# Altium integrated library Altera FLEX 6000.IntLib: 56 symbols (part 1 of 5)
Pins are listed as number, name and electrical type; pins without a type are passive.

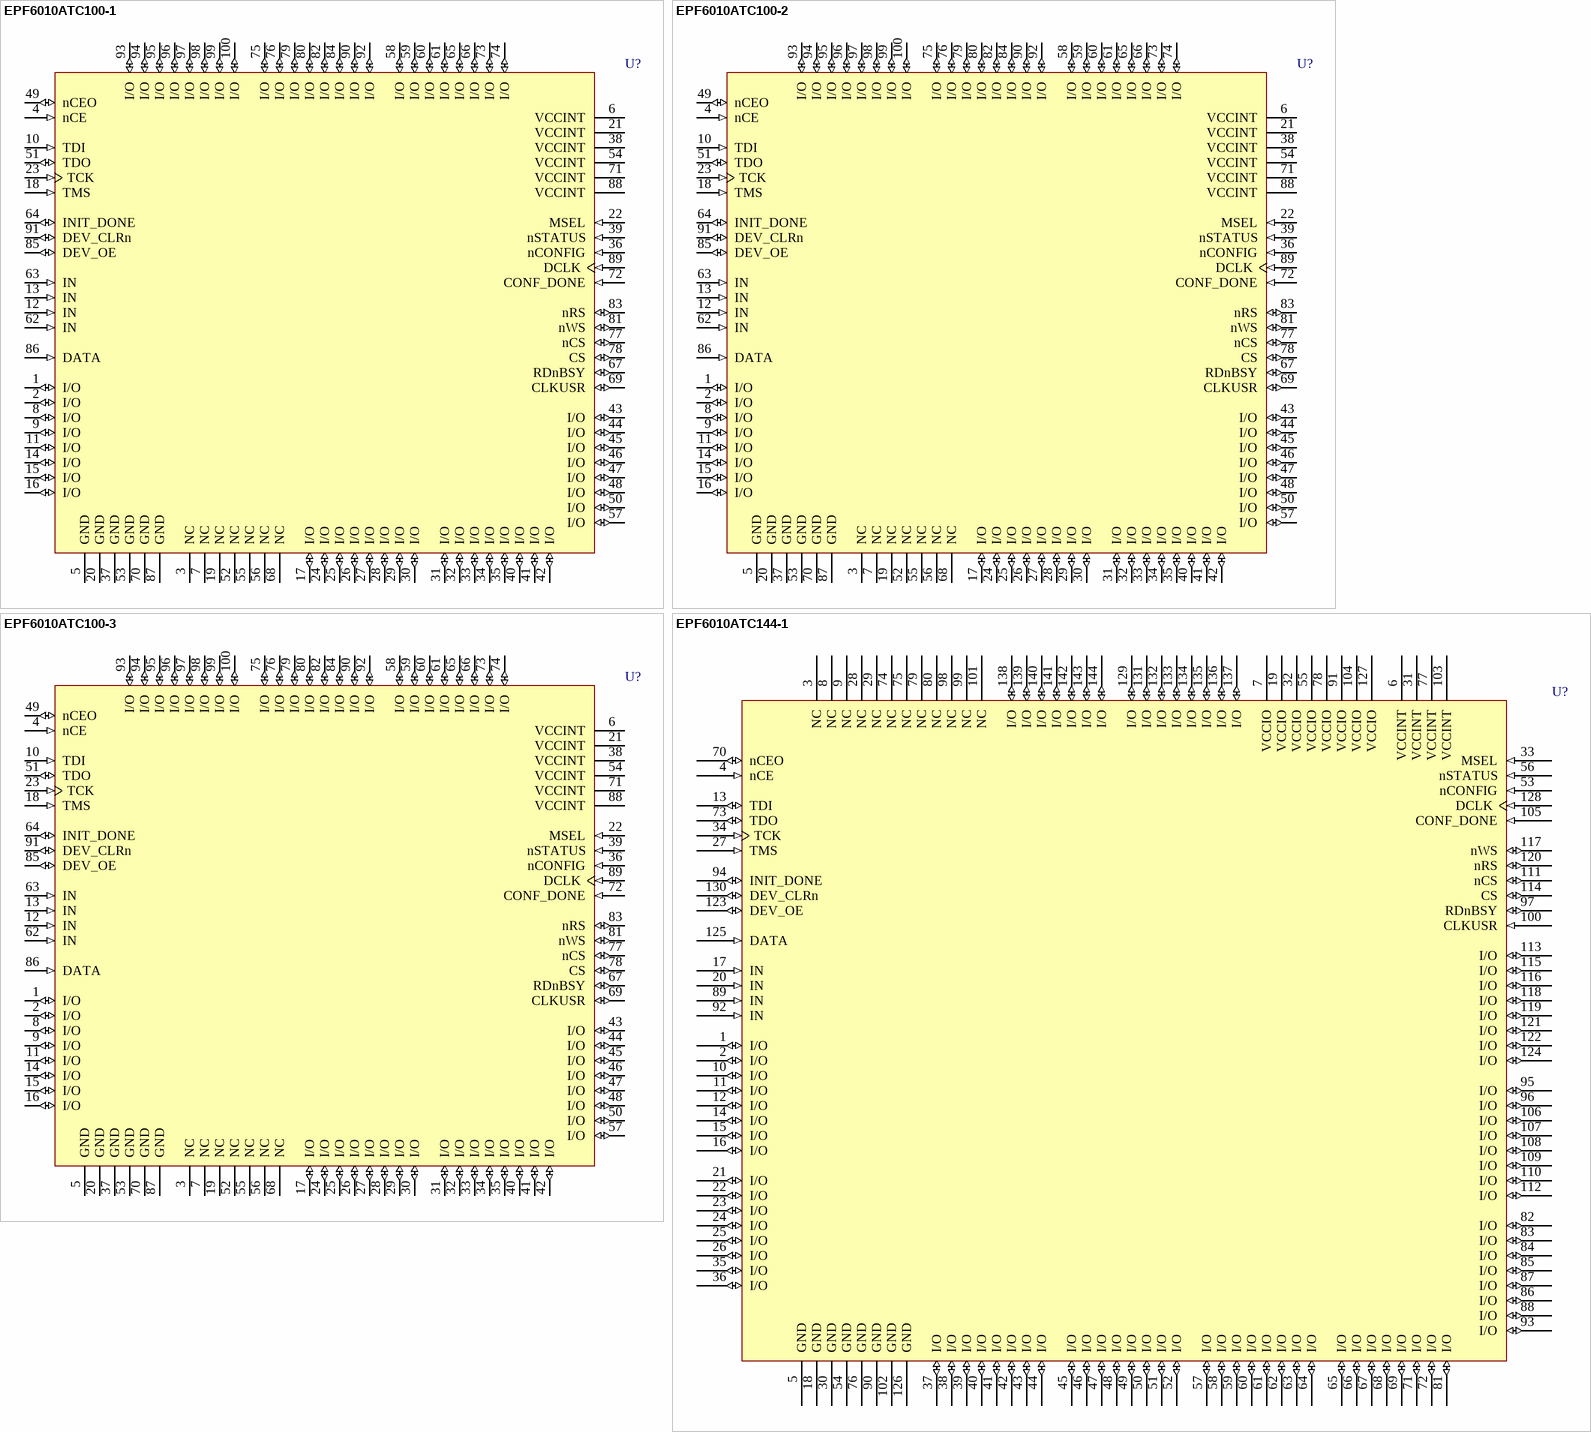
[diagram p0: symbols EPF6010ATC100-1 to EPF6010ATC144-1]

## EPF6010ATC100-1
designator U?
FLEX EPF6010A 3.3V PLD, 71 User IO Pins, 100-Pin TQFP, Speed Grade 1, Commercial Grade; Published: 24-Nov-2000; LatestRevisionDate: 13-Apr-2006; LatestRevisionNote: IPC-7351 Footprint Added.; DatasheetVersion: ver4.1, Mar-2001; PackageVersion: ver14.1, Oct-2005; PackageReference: TQFP100; Publisher: Altium Limited; PackageDescription: 100-Pin Plastic Thin Quad Flat Pack (TQFP100); Code_JEDEC: MS-026-AED; ComponentLink1Description: Manufacturer Link; ComponentLink1URL: http://www.altera.com/products/devices/flex6k/f6k-index.html; ComponentLink2Description: Datasheet; ComponentLink2URL: http://www.altera.com/literature/ds/dsf6k.pdf
footprint TQFP100_N (Thin QFP, 100-Leads, Body 14x14mm, Pitch 0.5mm, IPC Medium Density)
footprint TQFP100_L (Thin QFP, 100-Leads, Body 14x14mm, Pitch 0.5mm, IPC High Density)
footprint TQFP100_M (Thin QFP, 100-Leads, Body 14x14mm, Pitch 0.5mm, IPC Low Density)
3D model EPF6010A-TQFP100 (100-Pin Plastic Thin Quad Flat Pack (TQFP100))
pins: 1 I/O (io), 2 I/O (io), 3 NC, 4 nCE (in), 5 GND (power), 6 VCCINT (power), 7 NC, 8 I/O (io), 9 I/O (io), 10 TDI (in), 11 I/O (io), 12 IN (in), 13 IN (in), 14 I/O (io), 15 I/O (io), 16 I/O (io), 17 I/O (io), 18 TMS (in), 19 NC, 20 GND (power), 21 VCCINT (power), 22 MSEL (in), 23 TCK (in), 24 I/O (io), 25 I/O (io), 26 I/O (io), 27 I/O (io), 28 I/O (io), 29 I/O (io), 30 I/O (io), 31 I/O (io), 32 I/O (io), 33 I/O (io), 34 I/O (io), 35 I/O (io), 36 nCONFIG (in), 37 GND (power), 38 VCCINT (power), 39 nSTATUS (in), 40 I/O (io), 41 I/O (io), 42 I/O (io), 43 I/O (io), 44 I/O (io), 45 I/O (io), 46 I/O (io), 47 I/O (io), 48 I/O (io), 49 nCEO (io), 50 I/O (io), 51 TDO (io), 52 NC, 53 GND (power), 54 VCCINT (power), 55 NC, 56 NC, 57 I/O (io), 58 I/O (io), 59 I/O (io), 60 I/O (io), 61 I/O (io), 62 IN (in), 63 IN (in), 64 INIT_DONE (io), 65 I/O (io), 66 I/O (io), 67 RDnBSY (io), 68 NC, 69 CLKUSR (io), 70 GND (power), 71 VCCINT (power), 72 CONF_DONE (in), 73 I/O (io), 74 I/O (io), 75 I/O (io), 76 I/O (io), 77 nCS (io), 78 CS (io), 79 I/O (io), 80 I/O (io), 81 nWS (io), 82 I/O (io), 83 nRS (io), 84 I/O (io), 85 DEV_OE (io), 86 DATA (in), 87 GND (power), 88 VCCINT (power), 89 DCLK (in), 90 I/O (io), 91 DEV_CLRn (io), 92 I/O (io), 93 I/O (io), 94 I/O (io), 95 I/O (io), 96 I/O (io), 97 I/O (io), 98 I/O (io), 99 I/O (io), 100 I/O (io)

## EPF6010ATC100-2
designator U?
FLEX EPF6010A 3.3V PLD, 71 User IO Pins, 100-Pin TQFP, Speed Grade 2, Commercial Grade; Published: 24-Nov-2000; LatestRevisionDate: 13-Apr-2006; LatestRevisionNote: IPC-7351 Footprint Added.; DatasheetVersion: ver4.1, Mar-2001; PackageVersion: ver14.1, Oct-2005; PackageReference: TQFP100; Publisher: Altium Limited; PackageDescription: 100-Pin Plastic Thin Quad Flat Pack (TQFP100); Code_JEDEC: MS-026-AED; ComponentLink1Description: Manufacturer Link; ComponentLink1URL: http://www.altera.com/products/devices/flex6k/f6k-index.html; ComponentLink2Description: Datasheet; ComponentLink2URL: http://www.altera.com/literature/ds/dsf6k.pdf
footprint TQFP100_N (Thin QFP, 100-Leads, Body 14x14mm, Pitch 0.5mm, IPC Medium Density)
footprint TQFP100_L (Thin QFP, 100-Leads, Body 14x14mm, Pitch 0.5mm, IPC High Density)
footprint TQFP100_M (Thin QFP, 100-Leads, Body 14x14mm, Pitch 0.5mm, IPC Low Density)
3D model EPF6010A-TQFP100 (100-Pin Plastic Thin Quad Flat Pack (TQFP100))
pins: 1 I/O (io), 2 I/O (io), 3 NC, 4 nCE (in), 5 GND (power), 6 VCCINT (power), 7 NC, 8 I/O (io), 9 I/O (io), 10 TDI (in), 11 I/O (io), 12 IN (in), 13 IN (in), 14 I/O (io), 15 I/O (io), 16 I/O (io), 17 I/O (io), 18 TMS (in), 19 NC, 20 GND (power), 21 VCCINT (power), 22 MSEL (in), 23 TCK (in), 24 I/O (io), 25 I/O (io), 26 I/O (io), 27 I/O (io), 28 I/O (io), 29 I/O (io), 30 I/O (io), 31 I/O (io), 32 I/O (io), 33 I/O (io), 34 I/O (io), 35 I/O (io), 36 nCONFIG (in), 37 GND (power), 38 VCCINT (power), 39 nSTATUS (in), 40 I/O (io), 41 I/O (io), 42 I/O (io), 43 I/O (io), 44 I/O (io), 45 I/O (io), 46 I/O (io), 47 I/O (io), 48 I/O (io), 49 nCEO (io), 50 I/O (io), 51 TDO (io), 52 NC, 53 GND (power), 54 VCCINT (power), 55 NC, 56 NC, 57 I/O (io), 58 I/O (io), 59 I/O (io), 60 I/O (io), 61 I/O (io), 62 IN (in), 63 IN (in), 64 INIT_DONE (io), 65 I/O (io), 66 I/O (io), 67 RDnBSY (io), 68 NC, 69 CLKUSR (io), 70 GND (power), 71 VCCINT (power), 72 CONF_DONE (in), 73 I/O (io), 74 I/O (io), 75 I/O (io), 76 I/O (io), 77 nCS (io), 78 CS (io), 79 I/O (io), 80 I/O (io), 81 nWS (io), 82 I/O (io), 83 nRS (io), 84 I/O (io), 85 DEV_OE (io), 86 DATA (in), 87 GND (power), 88 VCCINT (power), 89 DCLK (in), 90 I/O (io), 91 DEV_CLRn (io), 92 I/O (io), 93 I/O (io), 94 I/O (io), 95 I/O (io), 96 I/O (io), 97 I/O (io), 98 I/O (io), 99 I/O (io), 100 I/O (io)

## EPF6010ATC100-3
designator U?
FLEX EPF6010A 3.3V PLD, 71 User IO Pins, 100-Pin TQFP, Speed Grade 3, Commercial Grade; Published: 24-Nov-2000; LatestRevisionDate: 13-Apr-2006; LatestRevisionNote: IPC-7351 Footprint Added.; DatasheetVersion: ver4.1, Mar-2001; PackageVersion: ver14.1, Oct-2005; PackageReference: TQFP100; Publisher: Altium Limited; PackageDescription: 100-Pin Plastic Thin Quad Flat Pack (TQFP100); Code_JEDEC: MS-026-AED; ComponentLink1Description: Manufacturer Link; ComponentLink1URL: http://www.altera.com/products/devices/flex6k/f6k-index.html; ComponentLink2Description: Datasheet; ComponentLink2URL: http://www.altera.com/literature/ds/dsf6k.pdf
footprint TQFP100_N (Thin QFP, 100-Leads, Body 14x14mm, Pitch 0.5mm, IPC Medium Density)
footprint TQFP100_L (Thin QFP, 100-Leads, Body 14x14mm, Pitch 0.5mm, IPC High Density)
footprint TQFP100_M (Thin QFP, 100-Leads, Body 14x14mm, Pitch 0.5mm, IPC Low Density)
3D model EPF6010A-TQFP100 (100-Pin Plastic Thin Quad Flat Pack (TQFP100))
pins: 1 I/O (io), 2 I/O (io), 3 NC, 4 nCE (in), 5 GND (power), 6 VCCINT (power), 7 NC, 8 I/O (io), 9 I/O (io), 10 TDI (in), 11 I/O (io), 12 IN (in), 13 IN (in), 14 I/O (io), 15 I/O (io), 16 I/O (io), 17 I/O (io), 18 TMS (in), 19 NC, 20 GND (power), 21 VCCINT (power), 22 MSEL (in), 23 TCK (in), 24 I/O (io), 25 I/O (io), 26 I/O (io), 27 I/O (io), 28 I/O (io), 29 I/O (io), 30 I/O (io), 31 I/O (io), 32 I/O (io), 33 I/O (io), 34 I/O (io), 35 I/O (io), 36 nCONFIG (in), 37 GND (power), 38 VCCINT (power), 39 nSTATUS (in), 40 I/O (io), 41 I/O (io), 42 I/O (io), 43 I/O (io), 44 I/O (io), 45 I/O (io), 46 I/O (io), 47 I/O (io), 48 I/O (io), 49 nCEO (io), 50 I/O (io), 51 TDO (io), 52 NC, 53 GND (power), 54 VCCINT (power), 55 NC, 56 NC, 57 I/O (io), 58 I/O (io), 59 I/O (io), 60 I/O (io), 61 I/O (io), 62 IN (in), 63 IN (in), 64 INIT_DONE (io), 65 I/O (io), 66 I/O (io), 67 RDnBSY (io), 68 NC, 69 CLKUSR (io), 70 GND (power), 71 VCCINT (power), 72 CONF_DONE (in), 73 I/O (io), 74 I/O (io), 75 I/O (io), 76 I/O (io), 77 nCS (io), 78 CS (io), 79 I/O (io), 80 I/O (io), 81 nWS (io), 82 I/O (io), 83 nRS (io), 84 I/O (io), 85 DEV_OE (io), 86 DATA (in), 87 GND (power), 88 VCCINT (power), 89 DCLK (in), 90 I/O (io), 91 DEV_CLRn (io), 92 I/O (io), 93 I/O (io), 94 I/O (io), 95 I/O (io), 96 I/O (io), 97 I/O (io), 98 I/O (io), 99 I/O (io), 100 I/O (io)

## EPF6010ATC144-1
designator U?
FLEX EPF6010A 3.3V PLD, 102 User IO Pins, 144-Pin TQFP, Speed Grade 1, Commercial Grade; Published: 24-Nov-2000; LatestRevisionDate: 13-Apr-2006; LatestRevisionNote: IPC-7351 Footprint Added.; DatasheetVersion: ver4.1, Mar-2001; PackageVersion: ver14.1, Oct-2005; PackageReference: TQFP144; Publisher: Altium Limited; PackageDescription: 144-Pin Plastic Thin Quad Flat Pack (TQFP144); Code_JEDEC: MS-026-BFB; ComponentLink1Description: Manufacturer Link; ComponentLink1URL: http://www.altera.com/products/devices/flex6k/f6k-index.html; ComponentLink2Description: Datasheet; ComponentLink2URL: http://www.altera.com/literature/ds/dsf6k.pdf
footprint TQFP144_N (Thin QFP, 144-Leads, Body 20x20mm, Pitch 0.5mm, IPC Medium Density)
footprint TQFP144_L (Thin QFP, 144-Leads, Body 20x20mm, Pitch 0.5mm, IPC High Density)
footprint TQFP144_M (Thin QFP, 144-Leads, Body 20x20mm, Pitch 0.5mm, IPC Low Density)
3D model EPF6010A-TQFP144 (144-Pin Plastic Thin Quad Flat Pack (TQFP144))
pins: 1 I/O (io), 2 I/O (io), 3 NC, 4 nCE (in), 5 GND (power), 6 VCCINT (power), 7 VCCIO (power), 8 NC, 9 NC, 10 I/O (io), 11 I/O (io), 12 I/O (io), 13 TDI (io), 14 I/O (io), 15 I/O (io), 16 I/O (io), 17 IN (in), 18 GND (power), 19 VCCIO (power), 20 IN (in), 21 I/O (io), 22 I/O (io), 23 I/O (io), 24 I/O (io), 25 I/O (io), 26 I/O (io), 27 TMS (in), 28 NC, 29 NC, 30 GND (power), 31 VCCINT (power), 32 VCCIO (power), 33 MSEL (in), 34 TCK (in), 35 I/O (io), 36 I/O (io), 37 I/O (io), 38 I/O (io), 39 I/O (io), 40 I/O (io), 41 I/O (io), 42 I/O (io), 43 I/O (io), 44 I/O (io), 45 I/O (io), 46 I/O (io), 47 I/O (io), 48 I/O (io), 49 I/O (io), 50 I/O (io), 51 I/O (io), 52 I/O (io), 53 nCONFIG (in), 54 GND (power), 55 VCCIO (power), 56 nSTATUS (in), 57 I/O (io), 58 I/O (io), 59 I/O (io), 60 I/O (io), 61 I/O (io), 62 I/O (io), 63 I/O (io), 64 I/O (io), 65 I/O (io), 66 I/O (io), 67 I/O (io), 68 I/O (io), 69 I/O (io), 70 nCEO (io), 71 I/O (io), 72 I/O (io), 73 TDO (io), 74 NC, 75 NC, 76 GND (power), 77 VCCINT (power), 78 VCCIO (power), 79 NC, 80 NC, 81 I/O (io), 82 I/O (io), 83 I/O (io), 84 I/O (io), 85 I/O (io), 86 I/O (io), 87 I/O (io), 88 I/O (io), 89 IN (in), 90 GND (power), 91 VCCIO (power), 92 IN (in), 93 I/O (io), 94 INIT_DONE (io), 95 I/O (io), 96 I/O (io), 97 RDnBSY (io), 98 NC, 99 NC, 100 CLKUSR (in), 101 NC, 102 GND (power), 103 VCCINT (power), 104 VCCIO (power), 105 CONF_DONE (in), 106 I/O (io), 107 I/O (io), 108 I/O (io), 109 I/O (io), 110 I/O (io), 111 nCS (io), 112 I/O (io), 113 I/O (io), 114 CS (io), 115 I/O (io), 116 I/O (io), 117 nWS (io), 118 I/O (io), 119 I/O (io), 120 nRS (io), 121 I/O (io), 122 I/O (io), 123 DEV_OE (io), 124 I/O (io), 125 DATA (in), 126 GND (power), 127 VCCIO (power), 128 DCLK (in), 129 I/O (io), 130 DEV_CLRn (io), 131 I/O (io), 132 I/O (io), 133 I/O (io), 134 I/O (io), 135 I/O (io), 136 I/O (io), 137 I/O (io), 138 I/O (io), 139 I/O (io), 140 I/O (io), 141 I/O (io), 142 I/O (io), 143 I/O (io), 144 I/O (io)

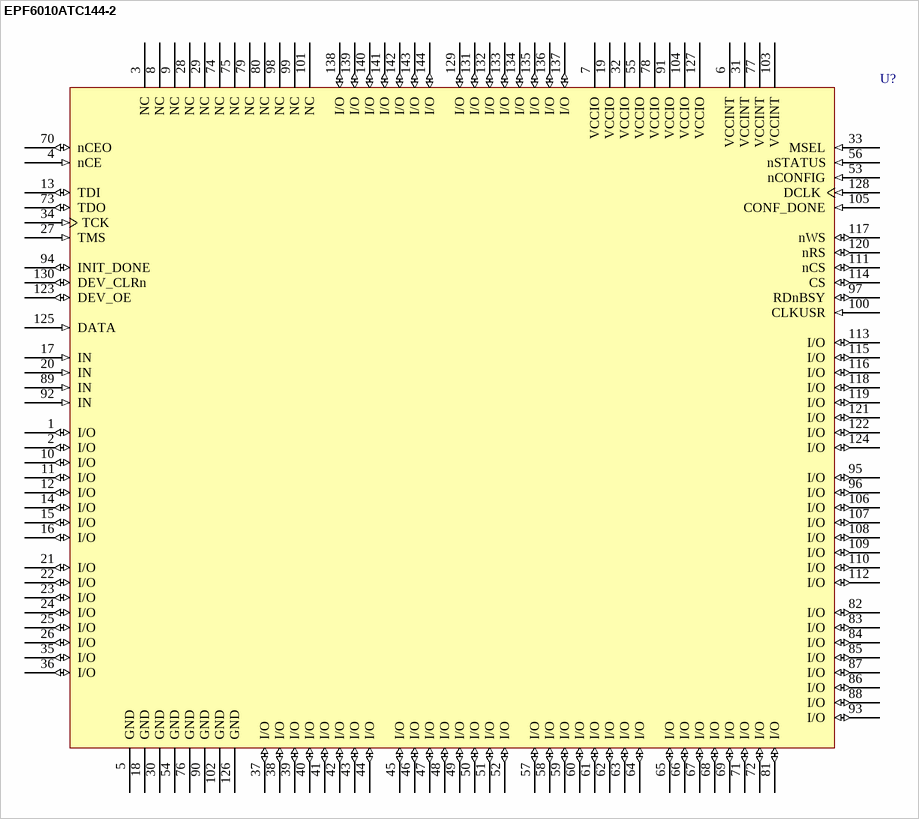
[diagram p1: symbol EPF6010ATC144-2]

## EPF6010ATC144-2
designator U?
FLEX EPF6010A 3.3V PLD, 102 User IO Pins, 144-Pin TQFP, Speed Grade 2, Commercial Grade; Published: 24-Nov-2000; LatestRevisionDate: 13-Apr-2006; LatestRevisionNote: IPC-7351 Footprint Added.; DatasheetVersion: ver4.1, Mar-2001; PackageVersion: ver14.1, Oct-2005; PackageReference: TQFP144; Publisher: Altium Limited; PackageDescription: 144-Pin Plastic Thin Quad Flat Pack (TQFP144); Code_JEDEC: MS-026-BFB; ComponentLink1Description: Manufacturer Link; ComponentLink1URL: http://www.altera.com/products/devices/flex6k/f6k-index.html; ComponentLink2Description: Datasheet; ComponentLink2URL: http://www.altera.com/literature/ds/dsf6k.pdf
footprint TQFP144_N (Thin QFP, 144-Leads, Body 20x20mm, Pitch 0.5mm, IPC Medium Density)
footprint TQFP144_L (Thin QFP, 144-Leads, Body 20x20mm, Pitch 0.5mm, IPC High Density)
footprint TQFP144_M (Thin QFP, 144-Leads, Body 20x20mm, Pitch 0.5mm, IPC Low Density)
3D model EPF6010A-TQFP144 (144-Pin Plastic Thin Quad Flat Pack (TQFP144))
pins: 1 I/O (io), 2 I/O (io), 3 NC, 4 nCE (in), 5 GND (power), 6 VCCINT (power), 7 VCCIO (power), 8 NC, 9 NC, 10 I/O (io), 11 I/O (io), 12 I/O (io), 13 TDI (io), 14 I/O (io), 15 I/O (io), 16 I/O (io), 17 IN (in), 18 GND (power), 19 VCCIO (power), 20 IN (in), 21 I/O (io), 22 I/O (io), 23 I/O (io), 24 I/O (io), 25 I/O (io), 26 I/O (io), 27 TMS (in), 28 NC, 29 NC, 30 GND (power), 31 VCCINT (power), 32 VCCIO (power), 33 MSEL (in), 34 TCK (in), 35 I/O (io), 36 I/O (io), 37 I/O (io), 38 I/O (io), 39 I/O (io), 40 I/O (io), 41 I/O (io), 42 I/O (io), 43 I/O (io), 44 I/O (io), 45 I/O (io), 46 I/O (io), 47 I/O (io), 48 I/O (io), 49 I/O (io), 50 I/O (io), 51 I/O (io), 52 I/O (io), 53 nCONFIG (in), 54 GND (power), 55 VCCIO (power), 56 nSTATUS (in), 57 I/O (io), 58 I/O (io), 59 I/O (io), 60 I/O (io), 61 I/O (io), 62 I/O (io), 63 I/O (io), 64 I/O (io), 65 I/O (io), 66 I/O (io), 67 I/O (io), 68 I/O (io), 69 I/O (io), 70 nCEO (io), 71 I/O (io), 72 I/O (io), 73 TDO (io), 74 NC, 75 NC, 76 GND (power), 77 VCCINT (power), 78 VCCIO (power), 79 NC, 80 NC, 81 I/O (io), 82 I/O (io), 83 I/O (io), 84 I/O (io), 85 I/O (io), 86 I/O (io), 87 I/O (io), 88 I/O (io), 89 IN (in), 90 GND (power), 91 VCCIO (power), 92 IN (in), 93 I/O (io), 94 INIT_DONE (io), 95 I/O (io), 96 I/O (io), 97 RDnBSY (io), 98 NC, 99 NC, 100 CLKUSR (in), 101 NC, 102 GND (power), 103 VCCINT (power), 104 VCCIO (power), 105 CONF_DONE (in), 106 I/O (io), 107 I/O (io), 108 I/O (io), 109 I/O (io), 110 I/O (io), 111 nCS (io), 112 I/O (io), 113 I/O (io), 114 CS (io), 115 I/O (io), 116 I/O (io), 117 nWS (io), 118 I/O (io), 119 I/O (io), 120 nRS (io), 121 I/O (io), 122 I/O (io), 123 DEV_OE (io), 124 I/O (io), 125 DATA (in), 126 GND (power), 127 VCCIO (power), 128 DCLK (in), 129 I/O (io), 130 DEV_CLRn (io), 131 I/O (io), 132 I/O (io), 133 I/O (io), 134 I/O (io), 135 I/O (io), 136 I/O (io), 137 I/O (io), 138 I/O (io), 139 I/O (io), 140 I/O (io), 141 I/O (io), 142 I/O (io), 143 I/O (io), 144 I/O (io)

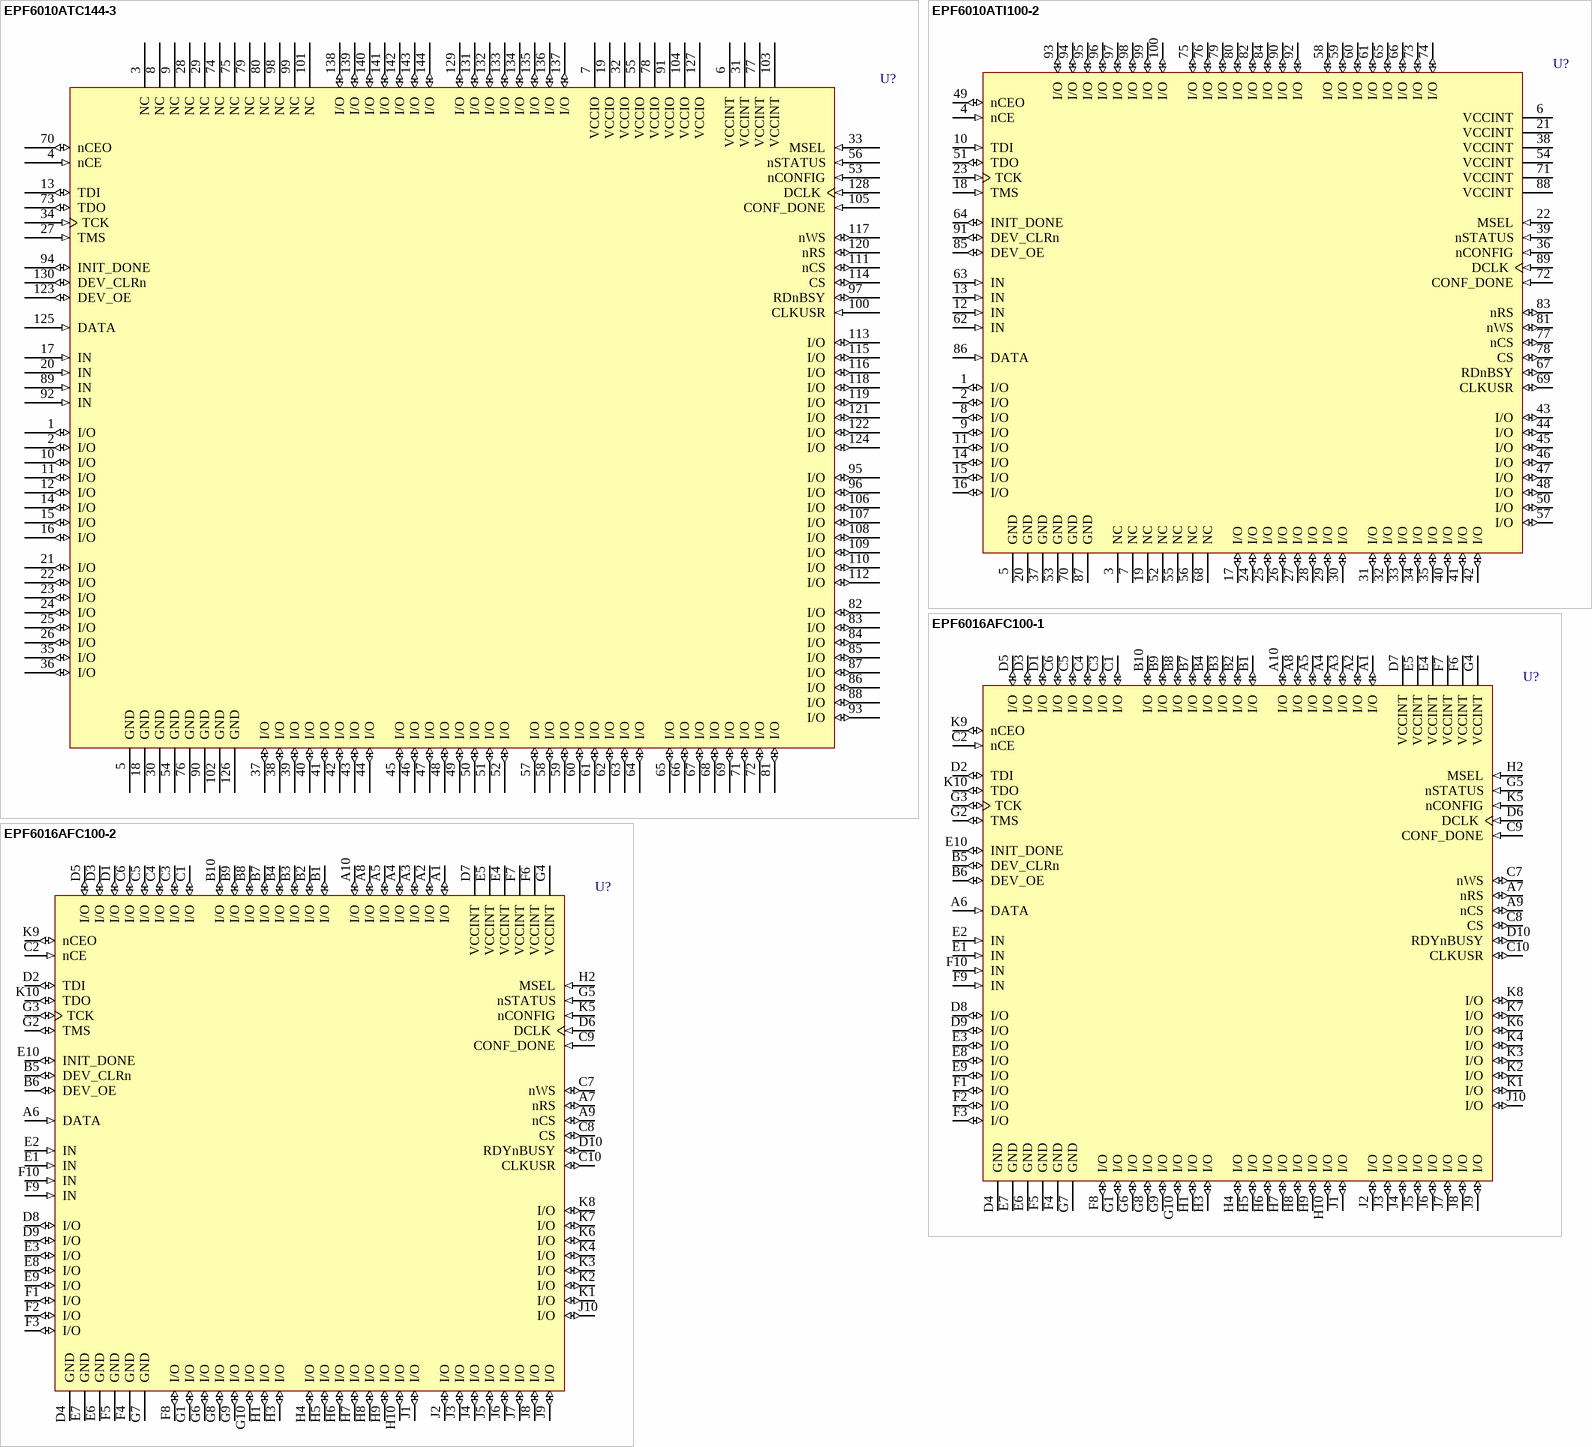
[diagram p2: symbols EPF6010ATC144-3 to EPF6016AFC100-2]

## EPF6010ATC144-3
designator U?
FLEX EPF6010A 3.3V PLD, 102 User IO Pins, 144-Pin TQFP, Speed Grade 3, Commercial Grade; Published: 24-Nov-2000; LatestRevisionDate: 13-Apr-2006; LatestRevisionNote: IPC-7351 Footprint Added.; DatasheetVersion: ver4.1, Mar-2001; PackageVersion: ver14.1, Oct-2005; PackageReference: TQFP144; Publisher: Altium Limited; PackageDescription: 144-Pin Plastic Thin Quad Flat Pack (TQFP144); Code_JEDEC: MS-026-BFB; ComponentLink1Description: Manufacturer Link; ComponentLink1URL: http://www.altera.com/products/devices/flex6k/f6k-index.html; ComponentLink2Description: Datasheet; ComponentLink2URL: http://www.altera.com/literature/ds/dsf6k.pdf
footprint TQFP144_N (Thin QFP, 144-Leads, Body 20x20mm, Pitch 0.5mm, IPC Medium Density)
footprint TQFP144_L (Thin QFP, 144-Leads, Body 20x20mm, Pitch 0.5mm, IPC High Density)
footprint TQFP144_M (Thin QFP, 144-Leads, Body 20x20mm, Pitch 0.5mm, IPC Low Density)
3D model EPF6010A-TQFP144 (144-Pin Plastic Thin Quad Flat Pack (TQFP144))
pins: 1 I/O (io), 2 I/O (io), 3 NC, 4 nCE (in), 5 GND (power), 6 VCCINT (power), 7 VCCIO (power), 8 NC, 9 NC, 10 I/O (io), 11 I/O (io), 12 I/O (io), 13 TDI (io), 14 I/O (io), 15 I/O (io), 16 I/O (io), 17 IN (in), 18 GND (power), 19 VCCIO (power), 20 IN (in), 21 I/O (io), 22 I/O (io), 23 I/O (io), 24 I/O (io), 25 I/O (io), 26 I/O (io), 27 TMS (in), 28 NC, 29 NC, 30 GND (power), 31 VCCINT (power), 32 VCCIO (power), 33 MSEL (in), 34 TCK (in), 35 I/O (io), 36 I/O (io), 37 I/O (io), 38 I/O (io), 39 I/O (io), 40 I/O (io), 41 I/O (io), 42 I/O (io), 43 I/O (io), 44 I/O (io), 45 I/O (io), 46 I/O (io), 47 I/O (io), 48 I/O (io), 49 I/O (io), 50 I/O (io), 51 I/O (io), 52 I/O (io), 53 nCONFIG (in), 54 GND (power), 55 VCCIO (power), 56 nSTATUS (in), 57 I/O (io), 58 I/O (io), 59 I/O (io), 60 I/O (io), 61 I/O (io), 62 I/O (io), 63 I/O (io), 64 I/O (io), 65 I/O (io), 66 I/O (io), 67 I/O (io), 68 I/O (io), 69 I/O (io), 70 nCEO (io), 71 I/O (io), 72 I/O (io), 73 TDO (io), 74 NC, 75 NC, 76 GND (power), 77 VCCINT (power), 78 VCCIO (power), 79 NC, 80 NC, 81 I/O (io), 82 I/O (io), 83 I/O (io), 84 I/O (io), 85 I/O (io), 86 I/O (io), 87 I/O (io), 88 I/O (io), 89 IN (in), 90 GND (power), 91 VCCIO (power), 92 IN (in), 93 I/O (io), 94 INIT_DONE (io), 95 I/O (io), 96 I/O (io), 97 RDnBSY (io), 98 NC, 99 NC, 100 CLKUSR (in), 101 NC, 102 GND (power), 103 VCCINT (power), 104 VCCIO (power), 105 CONF_DONE (in), 106 I/O (io), 107 I/O (io), 108 I/O (io), 109 I/O (io), 110 I/O (io), 111 nCS (io), 112 I/O (io), 113 I/O (io), 114 CS (io), 115 I/O (io), 116 I/O (io), 117 nWS (io), 118 I/O (io), 119 I/O (io), 120 nRS (io), 121 I/O (io), 122 I/O (io), 123 DEV_OE (io), 124 I/O (io), 125 DATA (in), 126 GND (power), 127 VCCIO (power), 128 DCLK (in), 129 I/O (io), 130 DEV_CLRn (io), 131 I/O (io), 132 I/O (io), 133 I/O (io), 134 I/O (io), 135 I/O (io), 136 I/O (io), 137 I/O (io), 138 I/O (io), 139 I/O (io), 140 I/O (io), 141 I/O (io), 142 I/O (io), 143 I/O (io), 144 I/O (io)

## EPF6010ATI100-2
designator U?
FLEX EPF6010A 3.3V PLD, 71 User IO Pins, 100-Pin TQFP, Speed Grade 2, Industrial Grade; Published: 17-Sep-2003; LatestRevisionDate: 13-Apr-2006; LatestRevisionNote: IPC-7351 Footprint Added.; DatasheetVersion: ver4.1, Mar-2001; PackageVersion: ver14.1, Oct-2005; PackageReference: TQFP100; Publisher: Altium Limited; PackageDescription: 100-Pin Plastic Thin Quad Flat Pack (TQFP100); Code_JEDEC: MS-026-AED; ComponentLink1Description: Manufacturer Link; ComponentLink1URL: http://www.altera.com/products/devices/flex6k/f6k-index.html; ComponentLink2Description: Datasheet; ComponentLink2URL: http://www.altera.com/literature/ds/dsf6k.pdf
footprint TQFP100_N (Thin QFP, 100-Leads, Body 14x14mm, Pitch 0.5mm, IPC Medium Density)
footprint TQFP100_L (Thin QFP, 100-Leads, Body 14x14mm, Pitch 0.5mm, IPC High Density)
footprint TQFP100_M (Thin QFP, 100-Leads, Body 14x14mm, Pitch 0.5mm, IPC Low Density)
3D model EPF6010A-TQFP100 (100-Pin Plastic Thin Quad Flat Pack (TQFP100))
pins: 1 I/O (io), 2 I/O (io), 3 NC, 4 nCE (in), 5 GND (power), 6 VCCINT (power), 7 NC, 8 I/O (io), 9 I/O (io), 10 TDI (in), 11 I/O (io), 12 IN (in), 13 IN (in), 14 I/O (io), 15 I/O (io), 16 I/O (io), 17 I/O (io), 18 TMS (in), 19 NC, 20 GND (power), 21 VCCINT (power), 22 MSEL (in), 23 TCK (in), 24 I/O (io), 25 I/O (io), 26 I/O (io), 27 I/O (io), 28 I/O (io), 29 I/O (io), 30 I/O (io), 31 I/O (io), 32 I/O (io), 33 I/O (io), 34 I/O (io), 35 I/O (io), 36 nCONFIG (in), 37 GND (power), 38 VCCINT (power), 39 nSTATUS (in), 40 I/O (io), 41 I/O (io), 42 I/O (io), 43 I/O (io), 44 I/O (io), 45 I/O (io), 46 I/O (io), 47 I/O (io), 48 I/O (io), 49 nCEO (io), 50 I/O (io), 51 TDO (io), 52 NC, 53 GND (power), 54 VCCINT (power), 55 NC, 56 NC, 57 I/O (io), 58 I/O (io), 59 I/O (io), 60 I/O (io), 61 I/O (io), 62 IN (in), 63 IN (in), 64 INIT_DONE (io), 65 I/O (io), 66 I/O (io), 67 RDnBSY (io), 68 NC, 69 CLKUSR (io), 70 GND (power), 71 VCCINT (power), 72 CONF_DONE (in), 73 I/O (io), 74 I/O (io), 75 I/O (io), 76 I/O (io), 77 nCS (io), 78 CS (io), 79 I/O (io), 80 I/O (io), 81 nWS (io), 82 I/O (io), 83 nRS (io), 84 I/O (io), 85 DEV_OE (io), 86 DATA (in), 87 GND (power), 88 VCCINT (power), 89 DCLK (in), 90 I/O (io), 91 DEV_CLRn (io), 92 I/O (io), 93 I/O (io), 94 I/O (io), 95 I/O (io), 96 I/O (io), 97 I/O (io), 98 I/O (io), 99 I/O (io), 100 I/O (io)

## EPF6016AFC100-1
designator U?
FLEX EPF6016A 3.3V PLD, 81 User IO Pins, 100-Pin FBGA, Speed Grade 1, Commercial Grade; Published: 17-Jul-2002; LatestRevisionDate: 13-Apr-2006; LatestRevisionNote: IPC-7351 Footprint Added.; DatasheetVersion: ver4.1, Mar-2001; PackageVersion: ver14.1, Oct-2005; PackageReference: FBGA100; Publisher: Altium Limited; PackageDescription: 100-Ball FineLine Ball Grid Array (FBGA100); Code_JEDEC: MO-192-AAC-1; Code_IPC: BGA100P10X10-100; ComponentLink1Description: Manufacturer Link; ComponentLink1URL: http://www.altera.com/products/devices/flex6k/f6k-index.html; ComponentLink2Description: Datasheet; ComponentLink2URL: http://www.altera.com/literature/ds/dsf6k.pdf
footprint FBGA100 (BGA, 100-Leads, Body 11x11mm, Pitch 1mm)
3D model EPF6016A-FBGA100 (100-Ball FineLine Ball Grid Array (FBGA100))
pins: A1 I/O (io), A2 I/O (io), A3 I/O (io), A4 I/O (io), A5 I/O (io), A6 DATA (in), A7 nRS (io), A8 I/O (io), A9 nCS (io), A10 I/O (io), B1 I/O (io), B2 I/O (io), B3 I/O (io), B4 I/O (io), B5 DEV_CLRn (io), B6 DEV_OE (io), B7 I/O (io), B8 I/O (io), B9 I/O (io), B10 I/O (io), C1 I/O (io), C2 nCE (in), C3 I/O (io), C4 I/O (io), C5 I/O (io), C6 I/O (io), C7 nWS (io), C8 CS (io), C9 CONF_DONE (in), C10 CLKUSR (io), D1 I/O (io), D2 TDI (io), D3 I/O (io), D4 GND (power), D5 I/O (io), D6 DCLK (in), D7 VCCINT (power), D8 I/O (io), D9 I/O (io), D10 RDYnBUSY (io), E1 IN (in), E2 IN (in), E3 I/O (io), E4 VCCINT (power), E5 VCCINT (power), E6 GND (power), E7 GND (power), E8 I/O (io), E9 I/O (io), E10 INIT_DONE (io), F1 I/O (io), F2 I/O (io), F3 I/O (io), F4 GND (power), F5 GND (power), F6 VCCINT (power), F7 VCCINT (power), F8 I/O (io), F9 IN (in), F10 IN (in), G1 I/O (io), G2 TMS (io), G3 TCK (io), G4 VCCINT (power), G5 nSTATUS (in), G6 I/O (io), G7 GND (power), G8 I/O (io), G9 I/O (io), G10 I/O (io), H1 I/O (io), H2 MSEL (in), H3 I/O (io), H4 I/O (io), H5 I/O (io), H6 I/O (io), H7 I/O (io), H8 I/O (io), H9 I/O (io), H10 I/O (io), J1 I/O (io), J2 I/O (io), J3 I/O (io), J4 I/O (io), J5 I/O (io), J6 I/O (io), J7 I/O (io), J8 I/O (io), J9 I/O (io), J10 I/O (io), K1 I/O (io), K2 I/O (io), K3 I/O (io), K4 I/O (io), K5 nCONFIG (in), K6 I/O (io), K7 I/O (io), K8 I/O (io), K9 nCEO (io), K10 TDO (io)

## EPF6016AFC100-2
designator U?
FLEX EPF6016A 3.3V PLD, 81 User IO Pins, 100-Pin FBGA, Speed Grade 2, Commercial Grade; Published: 17-Jul-2002; LatestRevisionDate: 13-Apr-2006; LatestRevisionNote: IPC-7351 Footprint Added.; DatasheetVersion: ver4.1, Mar-2001; PackageVersion: ver14.1, Oct-2005; PackageReference: FBGA100; Publisher: Altium Limited; PackageDescription: 100-Ball FineLine Ball Grid Array (FBGA100); Code_JEDEC: MO-192-AAC-1; Code_IPC: BGA100P10X10-100; ComponentLink1Description: Manufacturer Link; ComponentLink1URL: http://www.altera.com/products/devices/flex6k/f6k-index.html; ComponentLink2Description: Datasheet; ComponentLink2URL: http://www.altera.com/literature/ds/dsf6k.pdf
footprint FBGA100 (BGA, 100-Leads, Body 11x11mm, Pitch 1mm)
3D model EPF6016A-FBGA100 (100-Ball FineLine Ball Grid Array (FBGA100))
pins: A1 I/O (io), A2 I/O (io), A3 I/O (io), A4 I/O (io), A5 I/O (io), A6 DATA (in), A7 nRS (io), A8 I/O (io), A9 nCS (io), A10 I/O (io), B1 I/O (io), B2 I/O (io), B3 I/O (io), B4 I/O (io), B5 DEV_CLRn (io), B6 DEV_OE (io), B7 I/O (io), B8 I/O (io), B9 I/O (io), B10 I/O (io), C1 I/O (io), C2 nCE (in), C3 I/O (io), C4 I/O (io), C5 I/O (io), C6 I/O (io), C7 nWS (io), C8 CS (io), C9 CONF_DONE (in), C10 CLKUSR (io), D1 I/O (io), D2 TDI (io), D3 I/O (io), D4 GND (power), D5 I/O (io), D6 DCLK (in), D7 VCCINT (power), D8 I/O (io), D9 I/O (io), D10 RDYnBUSY (io), E1 IN (in), E2 IN (in), E3 I/O (io), E4 VCCINT (power), E5 VCCINT (power), E6 GND (power), E7 GND (power), E8 I/O (io), E9 I/O (io), E10 INIT_DONE (io), F1 I/O (io), F2 I/O (io), F3 I/O (io), F4 GND (power), F5 GND (power), F6 VCCINT (power), F7 VCCINT (power), F8 I/O (io), F9 IN (in), F10 IN (in), G1 I/O (io), G2 TMS (io), G3 TCK (io), G4 VCCINT (power), G5 nSTATUS (in), G6 I/O (io), G7 GND (power), G8 I/O (io), G9 I/O (io), G10 I/O (io), H1 I/O (io), H2 MSEL (in), H3 I/O (io), H4 I/O (io), H5 I/O (io), H6 I/O (io), H7 I/O (io), H8 I/O (io), H9 I/O (io), H10 I/O (io), J1 I/O (io), J2 I/O (io), J3 I/O (io), J4 I/O (io), J5 I/O (io), J6 I/O (io), J7 I/O (io), J8 I/O (io), J9 I/O (io), J10 I/O (io), K1 I/O (io), K2 I/O (io), K3 I/O (io), K4 I/O (io), K5 nCONFIG (in), K6 I/O (io), K7 I/O (io), K8 I/O (io), K9 nCEO (io), K10 TDO (io)

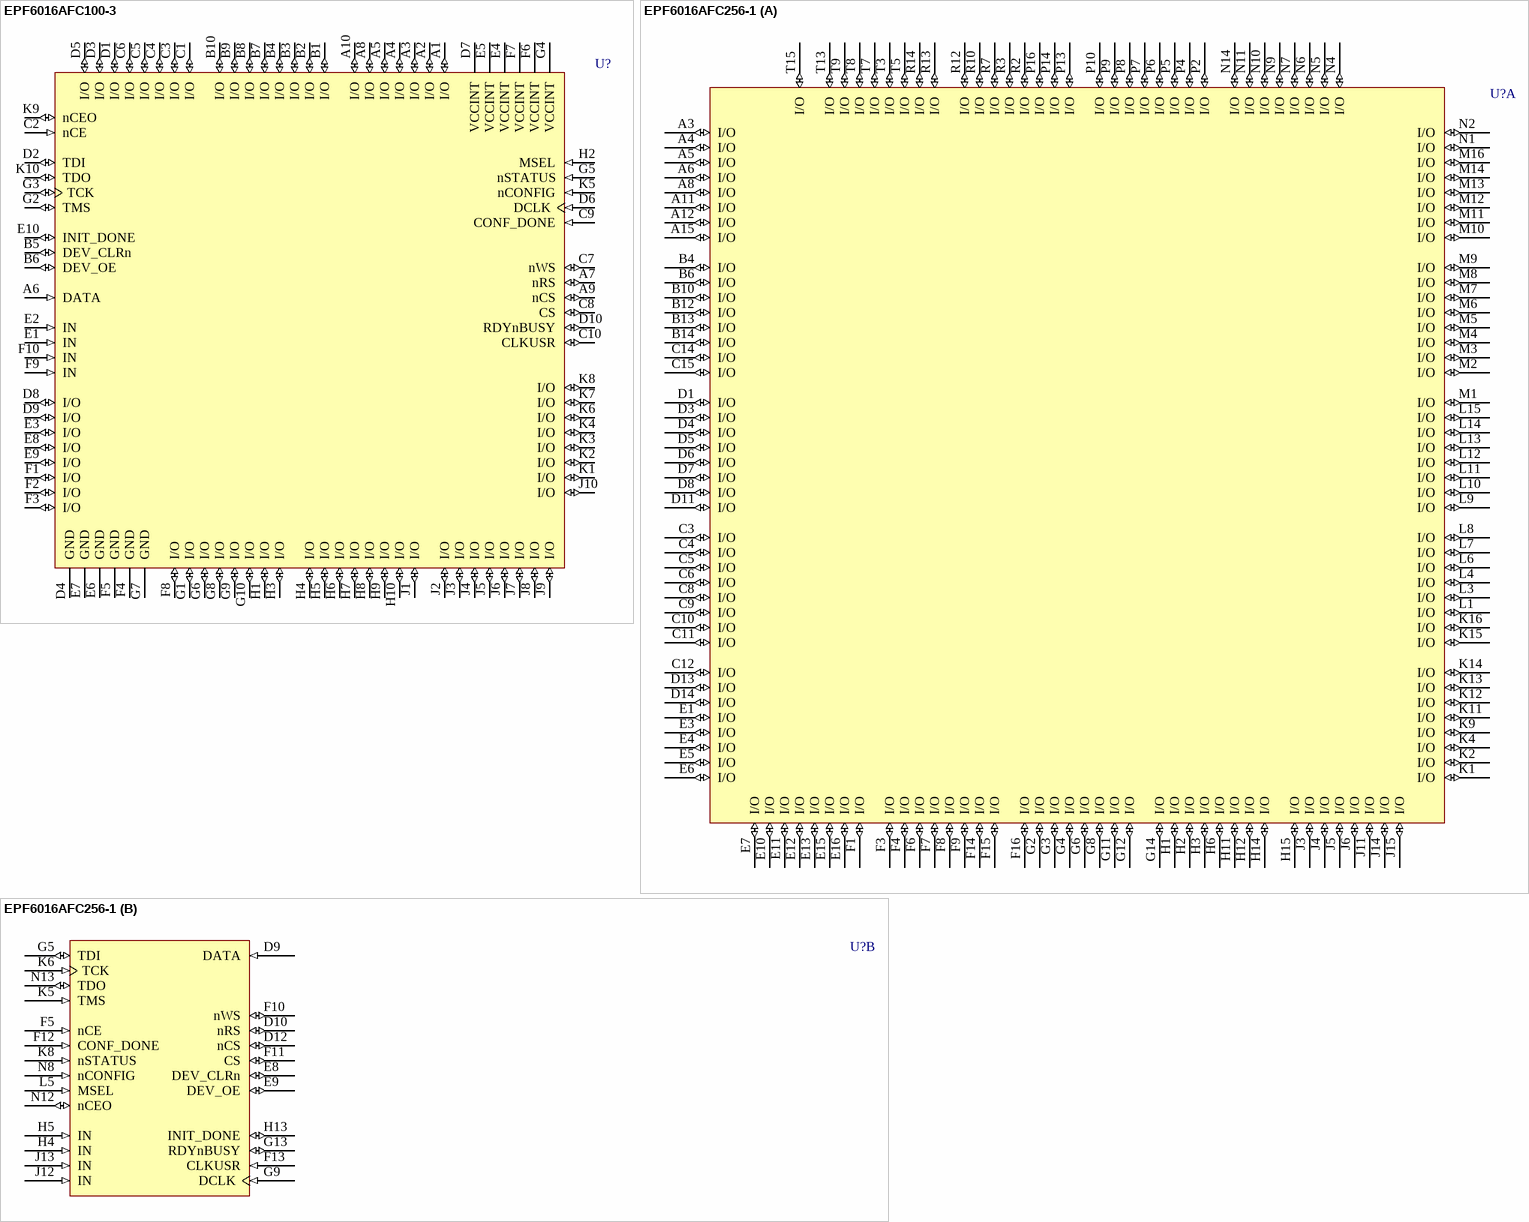
[diagram p3: symbols EPF6016AFC100-3 to EPF6016AFC256-1]

## EPF6016AFC100-3
designator U?
FLEX EPF6016A 3.3V PLD, 81 User IO Pins, 100-Pin FBGA, Speed Grade 3, Commercial Grade; Published: 17-Jul-2002; LatestRevisionDate: 13-Apr-2006; LatestRevisionNote: IPC-7351 Footprint Added.; DatasheetVersion: ver4.1, Mar-2001; PackageVersion: ver14.1, Oct-2005; PackageReference: FBGA100; Publisher: Altium Limited; PackageDescription: 100-Ball FineLine Ball Grid Array (FBGA100); Code_JEDEC: MO-192-AAC-1; Code_IPC: BGA100P10X10-100; ComponentLink1Description: Manufacturer Link; ComponentLink1URL: http://www.altera.com/products/devices/flex6k/f6k-index.html; ComponentLink2Description: Datasheet; ComponentLink2URL: http://www.altera.com/literature/ds/dsf6k.pdf
footprint FBGA100 (BGA, 100-Leads, Body 11x11mm, Pitch 1mm)
3D model EPF6016A-FBGA100 (100-Ball FineLine Ball Grid Array (FBGA100))
pins: A1 I/O (io), A2 I/O (io), A3 I/O (io), A4 I/O (io), A5 I/O (io), A6 DATA (in), A7 nRS (io), A8 I/O (io), A9 nCS (io), A10 I/O (io), B1 I/O (io), B2 I/O (io), B3 I/O (io), B4 I/O (io), B5 DEV_CLRn (io), B6 DEV_OE (io), B7 I/O (io), B8 I/O (io), B9 I/O (io), B10 I/O (io), C1 I/O (io), C2 nCE (in), C3 I/O (io), C4 I/O (io), C5 I/O (io), C6 I/O (io), C7 nWS (io), C8 CS (io), C9 CONF_DONE (in), C10 CLKUSR (io), D1 I/O (io), D2 TDI (io), D3 I/O (io), D4 GND (power), D5 I/O (io), D6 DCLK (in), D7 VCCINT (power), D8 I/O (io), D9 I/O (io), D10 RDYnBUSY (io), E1 IN (in), E2 IN (in), E3 I/O (io), E4 VCCINT (power), E5 VCCINT (power), E6 GND (power), E7 GND (power), E8 I/O (io), E9 I/O (io), E10 INIT_DONE (io), F1 I/O (io), F2 I/O (io), F3 I/O (io), F4 GND (power), F5 GND (power), F6 VCCINT (power), F7 VCCINT (power), F8 I/O (io), F9 IN (in), F10 IN (in), G1 I/O (io), G2 TMS (io), G3 TCK (io), G4 VCCINT (power), G5 nSTATUS (in), G6 I/O (io), G7 GND (power), G8 I/O (io), G9 I/O (io), G10 I/O (io), H1 I/O (io), H2 MSEL (in), H3 I/O (io), H4 I/O (io), H5 I/O (io), H6 I/O (io), H7 I/O (io), H8 I/O (io), H9 I/O (io), H10 I/O (io), J1 I/O (io), J2 I/O (io), J3 I/O (io), J4 I/O (io), J5 I/O (io), J6 I/O (io), J7 I/O (io), J8 I/O (io), J9 I/O (io), J10 I/O (io), K1 I/O (io), K2 I/O (io), K3 I/O (io), K4 I/O (io), K5 nCONFIG (in), K6 I/O (io), K7 I/O (io), K8 I/O (io), K9 nCEO (io), K10 TDO (io)

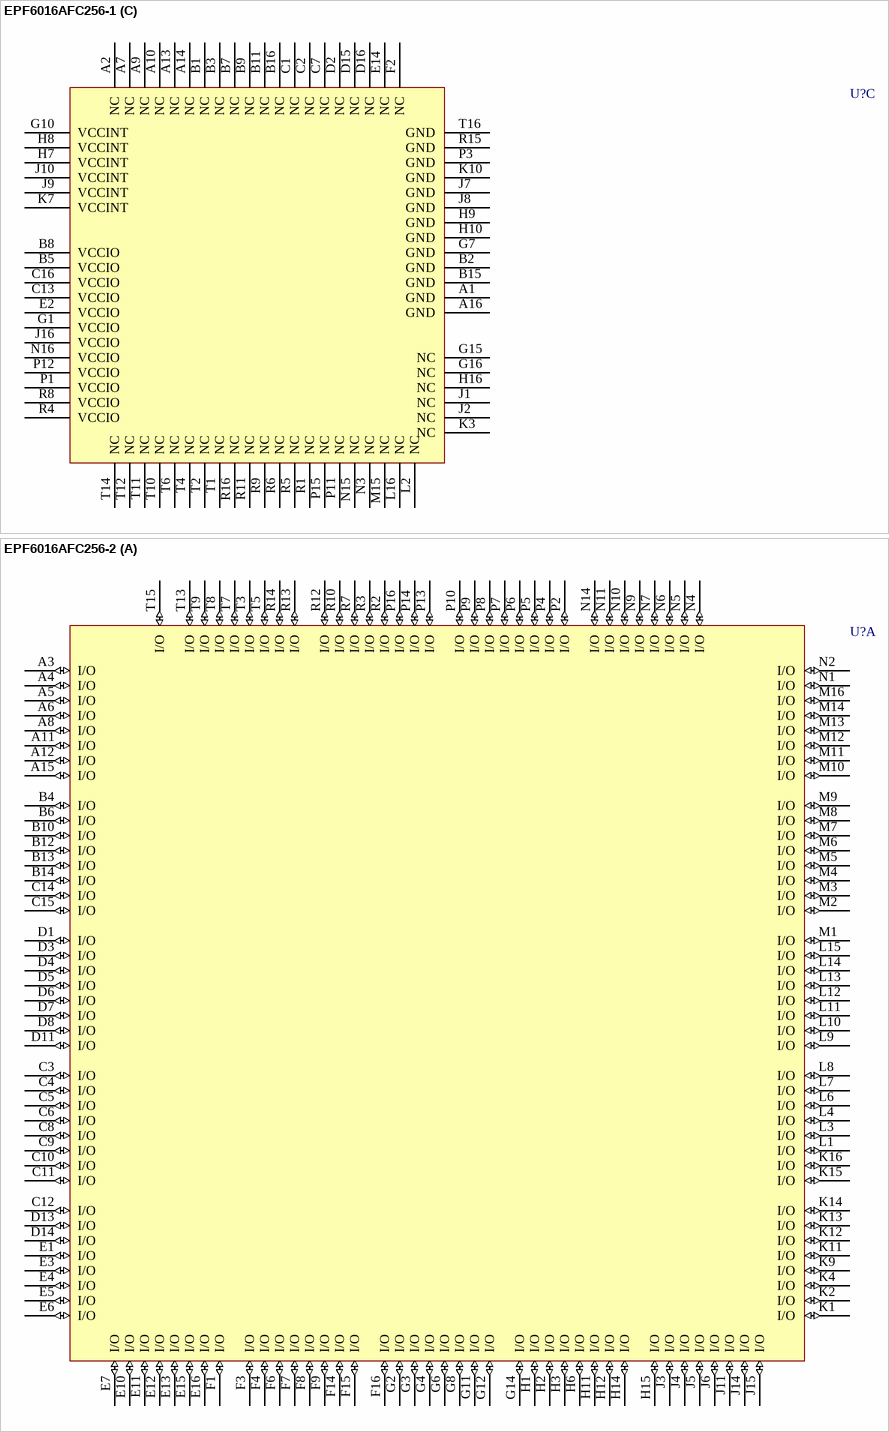
[diagram p4: symbols EPF6016AFC256-1 to EPF6016AFC256-2]

## EPF6016AFC256-1
designator U?
FLEX EPF6016A 3.3V PLD, 171 User IO Pins, 256-Pin BGA, Speed Grade 1, Commercial Grade; Published: 17-Jul-2002; LatestRevisionDate: 13-Apr-2006; LatestRevisionNote: IPC-7351 Footprint Added.; DatasheetVersion: ver4.1, Mar-2001; PackageVersion: ver14.1, Oct-2005; PackageReference: FBGA256; Publisher: Altium Limited; PackageDescription: 256-Ball FineLine Ball Grid Array (FBGA256) - Option 1; Code_JEDEC: MS-034-AAF-1; Code_IPC: BGA100P16X16-256; ComponentLink1Description: Manufacturer Link; ComponentLink1URL: http://www.altera.com/products/devices/flex6k/f6k-index.html; ComponentLink2Description: Datasheet; ComponentLink2URL: http://www.altera.com/literature/ds/dsf6k.pdf
footprint FBGA256 (BGA, 256-Leads, Body 17x17mm, Pitch 1mm)
3D model EPF6016A-FBGA256 (256-Ball FineLine Ball Grid Array (FBGA256) - Option 1)
part A pins: A3 I/O (io), A4 I/O (io), A5 I/O (io), A6 I/O (io), A8 I/O (io), A11 I/O (io), A12 I/O (io), A15 I/O (io), B4 I/O (io), B6 I/O (io), B10 I/O (io), B12 I/O (io), B13 I/O (io), B14 I/O (io), C3 I/O (io), C4 I/O (io), C5 I/O (io), C6 I/O (io), C8 I/O (io), C9 I/O (io), C10 I/O (io), C11 I/O (io), C12 I/O (io), C14 I/O (io), C15 I/O (io), D1 I/O (io), D3 I/O (io), D4 I/O (io), D5 I/O (io), D6 I/O (io), D7 I/O (io), D8 I/O (io), D11 I/O (io), D13 I/O (io), D14 I/O (io), E1 I/O (io), E3 I/O (io), E4 I/O (io), E5 I/O (io), E6 I/O (io), E7 I/O (io), E10 I/O (io), E11 I/O (io), E12 I/O (io), E13 I/O (io), E15 I/O (io), E16 I/O (io), F1 I/O (io), F3 I/O (io), F4 I/O (io), F6 I/O (io), F7 I/O (io), F8 I/O (io), F9 I/O (io), F14 I/O (io), F15 I/O (io), F16 I/O (io), G2 I/O (io), G3 I/O (io), G4 I/O (io), G6 I/O (io), G8 I/O (io), G11 I/O (io), G12 I/O (io), G14 I/O (io), H1 I/O (io), H2 I/O (io), H3 I/O (io), H6 I/O (io), H11 I/O (io), H12 I/O (io), H14 I/O (io), H15 I/O (io), J3 I/O (io), J4 I/O (io), J5 I/O (io), J6 I/O (io), J11 I/O (io), J14 I/O (io), J15 I/O (io), K1 I/O (io), K2 I/O (io), K4 I/O (io), K9 I/O (io), K11 I/O (io), K12 I/O (io), K13 I/O (io), K14 I/O (io), K15 I/O (io), K16 I/O (io), L1 I/O (io), L3 I/O (io), L4 I/O (io), L6 I/O (io), L7 I/O (io), L8 I/O (io), L9 I/O (io), L10 I/O (io), L11 I/O (io), L12 I/O (io), L13 I/O (io), L14 I/O (io), L15 I/O (io), M1 I/O (io), M2 I/O (io), M3 I/O (io), M4 I/O (io), M5 I/O (io), M6 I/O (io), M7 I/O (io), M8 I/O (io), M9 I/O (io), M10 I/O (io), M11 I/O (io), M12 I/O (io), M13 I/O (io), M14 I/O (io), M16 I/O (io), N1 I/O (io), N2 I/O (io), N4 I/O (io), N5 I/O (io), N6 I/O (io), N7 I/O (io), N9 I/O (io), N10 I/O (io), N11 I/O (io), N14 I/O (io), P2 I/O (io), P4 I/O (io), P5 I/O (io), P6 I/O (io), P7 I/O (io), P8 I/O (io), P9 I/O (io), P10 I/O (io), P13 I/O (io), P14 I/O (io), P16 I/O (io), R2 I/O (io), R3 I/O (io), R7 I/O (io), R10 I/O (io), R12 I/O (io), R13 I/O (io), R14 I/O (io), T3 I/O (io), T5 I/O (io), T7 I/O (io), T8 I/O (io), T9 I/O (io), T13 I/O (io), T15 I/O (io)
part B pins: D9 DATA (in), D10 nRS (io), D12 nCS (io), E8 DEV_CLRn (io), E9 DEV_OE (io), F5 nCE (in), F10 nWS (io), F11 CS (io), F12 CONF_DONE (in), F13 CLKUSR (in), G5 TDI (io), G9 DCLK (in), G13 RDYnBUSY (io), H4 IN (in), H5 IN (in), H13 INIT_DONE (io), J12 IN (in), J13 IN (in), K5 TMS (in), K6 TCK (in), K8 nSTATUS (in), L5 MSEL (in), N8 nCONFIG (in), N12 nCEO (io), N13 TDO (io)
part C pins: A1 GND (power), A2 NC, A7 NC, A9 NC, A10 NC, A13 NC, A14 NC, A16 GND (power), B1 NC, B2 GND (power), B3 NC, B5 VCCIO (power), B7 NC, B8 VCCIO (power), B9 NC, B11 NC, B15 GND (power), B16 NC, C1 NC, C2 NC, C7 NC, C13 VCCIO (power), C16 VCCIO (power), D2 NC, D15 NC, D16 NC, E2 VCCIO (power), E14 NC, F2 NC, G1 VCCIO (power), G7 GND (power), G10 VCCINT (power), G15 NC, G16 NC, H7 VCCINT (power), H8 VCCINT (power), H9 GND (power), H10 GND (power), H16 NC, J1 NC, J2 NC, J7 GND (power), J8 GND (power), J9 VCCINT (power), J10 VCCINT (power), J16 VCCIO (power), K3 NC, K7 VCCINT (power), K10 GND (power), L2 NC, L16 NC, M15 NC, N3 NC, N15 NC, N16 VCCIO (power), P1 VCCIO (power), P3 GND (power), P11 NC, P12 VCCIO (power), P15 NC, R1 NC, R4 VCCIO (power), R5 NC, R6 NC, R8 VCCIO (power), R9 NC, R11 NC, R15 GND (power), R16 NC, T1 NC, T2 NC, T4 NC, T6 NC, T10 NC, T11 NC, T12 NC, T14 NC, T16 GND (power)

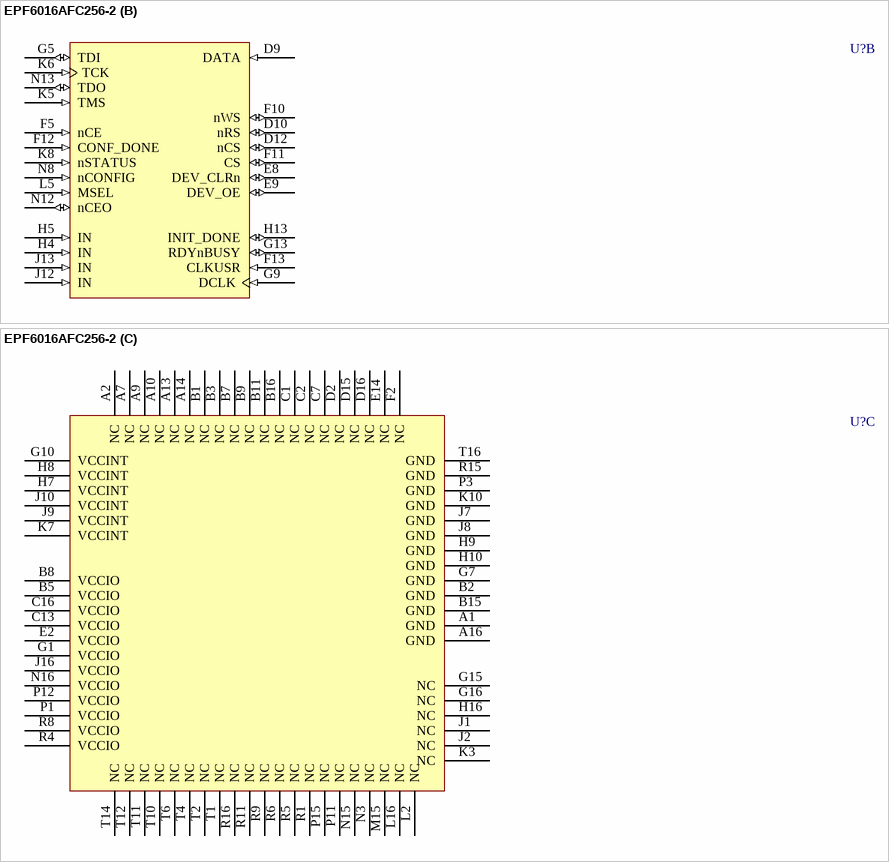
[diagram p5: symbol EPF6016AFC256-2]

## EPF6016AFC256-2
designator U?
FLEX EPF6016A 3.3V PLD, 171 User IO Pins, 256-Pin BGA, Speed Grade 2, Commercial Grade; Published: 17-Jul-2002; LatestRevisionDate: 13-Apr-2006; LatestRevisionNote: IPC-7351 Footprint Added.; DatasheetVersion: ver4.1, Mar-2001; PackageVersion: ver14.1, Oct-2005; PackageReference: FBGA256; Publisher: Altium Limited; PackageDescription: 256-Ball FineLine Ball Grid Array (FBGA256) - Option 1; Code_JEDEC: MS-034-AAF-1; Code_IPC: BGA100P16X16-256; ComponentLink1Description: Manufacturer Link; ComponentLink1URL: http://www.altera.com/products/devices/flex6k/f6k-index.html; ComponentLink2Description: Datasheet; ComponentLink2URL: http://www.altera.com/literature/ds/dsf6k.pdf
footprint FBGA256 (BGA, 256-Leads, Body 17x17mm, Pitch 1mm)
3D model EPF6016A-FBGA256 (256-Ball FineLine Ball Grid Array (FBGA256) - Option 1)
part A pins: A3 I/O (io), A4 I/O (io), A5 I/O (io), A6 I/O (io), A8 I/O (io), A11 I/O (io), A12 I/O (io), A15 I/O (io), B4 I/O (io), B6 I/O (io), B10 I/O (io), B12 I/O (io), B13 I/O (io), B14 I/O (io), C3 I/O (io), C4 I/O (io), C5 I/O (io), C6 I/O (io), C8 I/O (io), C9 I/O (io), C10 I/O (io), C11 I/O (io), C12 I/O (io), C14 I/O (io), C15 I/O (io), D1 I/O (io), D3 I/O (io), D4 I/O (io), D5 I/O (io), D6 I/O (io), D7 I/O (io), D8 I/O (io), D11 I/O (io), D13 I/O (io), D14 I/O (io), E1 I/O (io), E3 I/O (io), E4 I/O (io), E5 I/O (io), E6 I/O (io), E7 I/O (io), E10 I/O (io), E11 I/O (io), E12 I/O (io), E13 I/O (io), E15 I/O (io), E16 I/O (io), F1 I/O (io), F3 I/O (io), F4 I/O (io), F6 I/O (io), F7 I/O (io), F8 I/O (io), F9 I/O (io), F14 I/O (io), F15 I/O (io), F16 I/O (io), G2 I/O (io), G3 I/O (io), G4 I/O (io), G6 I/O (io), G8 I/O (io), G11 I/O (io), G12 I/O (io), G14 I/O (io), H1 I/O (io), H2 I/O (io), H3 I/O (io), H6 I/O (io), H11 I/O (io), H12 I/O (io), H14 I/O (io), H15 I/O (io), J3 I/O (io), J4 I/O (io), J5 I/O (io), J6 I/O (io), J11 I/O (io), J14 I/O (io), J15 I/O (io), K1 I/O (io), K2 I/O (io), K4 I/O (io), K9 I/O (io), K11 I/O (io), K12 I/O (io), K13 I/O (io), K14 I/O (io), K15 I/O (io), K16 I/O (io), L1 I/O (io), L3 I/O (io), L4 I/O (io), L6 I/O (io), L7 I/O (io), L8 I/O (io), L9 I/O (io), L10 I/O (io), L11 I/O (io), L12 I/O (io), L13 I/O (io), L14 I/O (io), L15 I/O (io), M1 I/O (io), M2 I/O (io), M3 I/O (io), M4 I/O (io), M5 I/O (io), M6 I/O (io), M7 I/O (io), M8 I/O (io), M9 I/O (io), M10 I/O (io), M11 I/O (io), M12 I/O (io), M13 I/O (io), M14 I/O (io), M16 I/O (io), N1 I/O (io), N2 I/O (io), N4 I/O (io), N5 I/O (io), N6 I/O (io), N7 I/O (io), N9 I/O (io), N10 I/O (io), N11 I/O (io), N14 I/O (io), P2 I/O (io), P4 I/O (io), P5 I/O (io), P6 I/O (io), P7 I/O (io), P8 I/O (io), P9 I/O (io), P10 I/O (io), P13 I/O (io), P14 I/O (io), P16 I/O (io), R2 I/O (io), R3 I/O (io), R7 I/O (io), R10 I/O (io), R12 I/O (io), R13 I/O (io), R14 I/O (io), T3 I/O (io), T5 I/O (io), T7 I/O (io), T8 I/O (io), T9 I/O (io), T13 I/O (io), T15 I/O (io)
part B pins: D9 DATA (in), D10 nRS (io), D12 nCS (io), E8 DEV_CLRn (io), E9 DEV_OE (io), F5 nCE (in), F10 nWS (io), F11 CS (io), F12 CONF_DONE (in), F13 CLKUSR (in), G5 TDI (io), G9 DCLK (in), G13 RDYnBUSY (io), H4 IN (in), H5 IN (in), H13 INIT_DONE (io), J12 IN (in), J13 IN (in), K5 TMS (in), K6 TCK (in), K8 nSTATUS (in), L5 MSEL (in), N8 nCONFIG (in), N12 nCEO (io), N13 TDO (io)
part C pins: A1 GND (power), A2 NC, A7 NC, A9 NC, A10 NC, A13 NC, A14 NC, A16 GND (power), B1 NC, B2 GND (power), B3 NC, B5 VCCIO (power), B7 NC, B8 VCCIO (power), B9 NC, B11 NC, B15 GND (power), B16 NC, C1 NC, C2 NC, C7 NC, C13 VCCIO (power), C16 VCCIO (power), D2 NC, D15 NC, D16 NC, E2 VCCIO (power), E14 NC, F2 NC, G1 VCCIO (power), G7 GND (power), G10 VCCINT (power), G15 NC, G16 NC, H7 VCCINT (power), H8 VCCINT (power), H9 GND (power), H10 GND (power), H16 NC, J1 NC, J2 NC, J7 GND (power), J8 GND (power), J9 VCCINT (power), J10 VCCINT (power), J16 VCCIO (power), K3 NC, K7 VCCINT (power), K10 GND (power), L2 NC, L16 NC, M15 NC, N3 NC, N15 NC, N16 VCCIO (power), P1 VCCIO (power), P3 GND (power), P11 NC, P12 VCCIO (power), P15 NC, R1 NC, R4 VCCIO (power), R5 NC, R6 NC, R8 VCCIO (power), R9 NC, R11 NC, R15 GND (power), R16 NC, T1 NC, T2 NC, T4 NC, T6 NC, T10 NC, T11 NC, T12 NC, T14 NC, T16 GND (power)

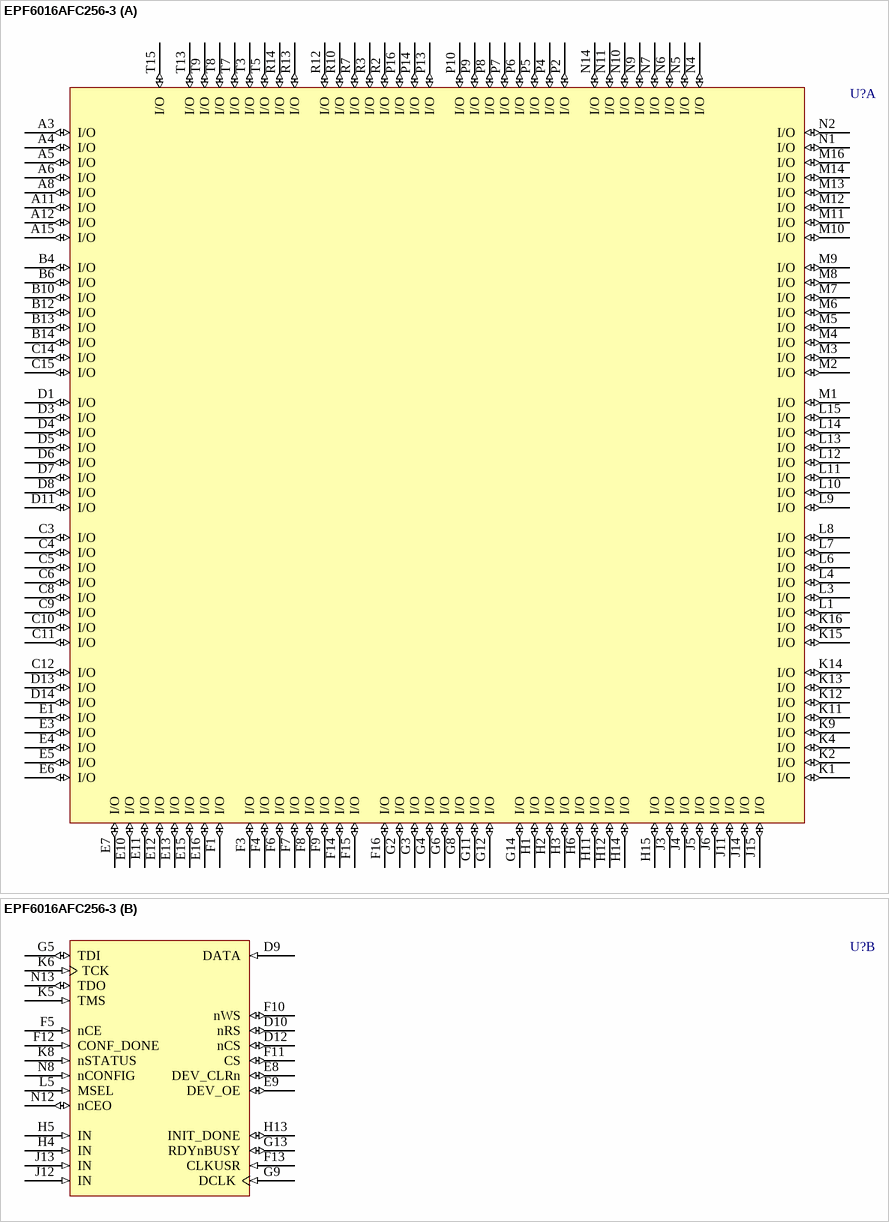
[diagram p6: symbol EPF6016AFC256-3]

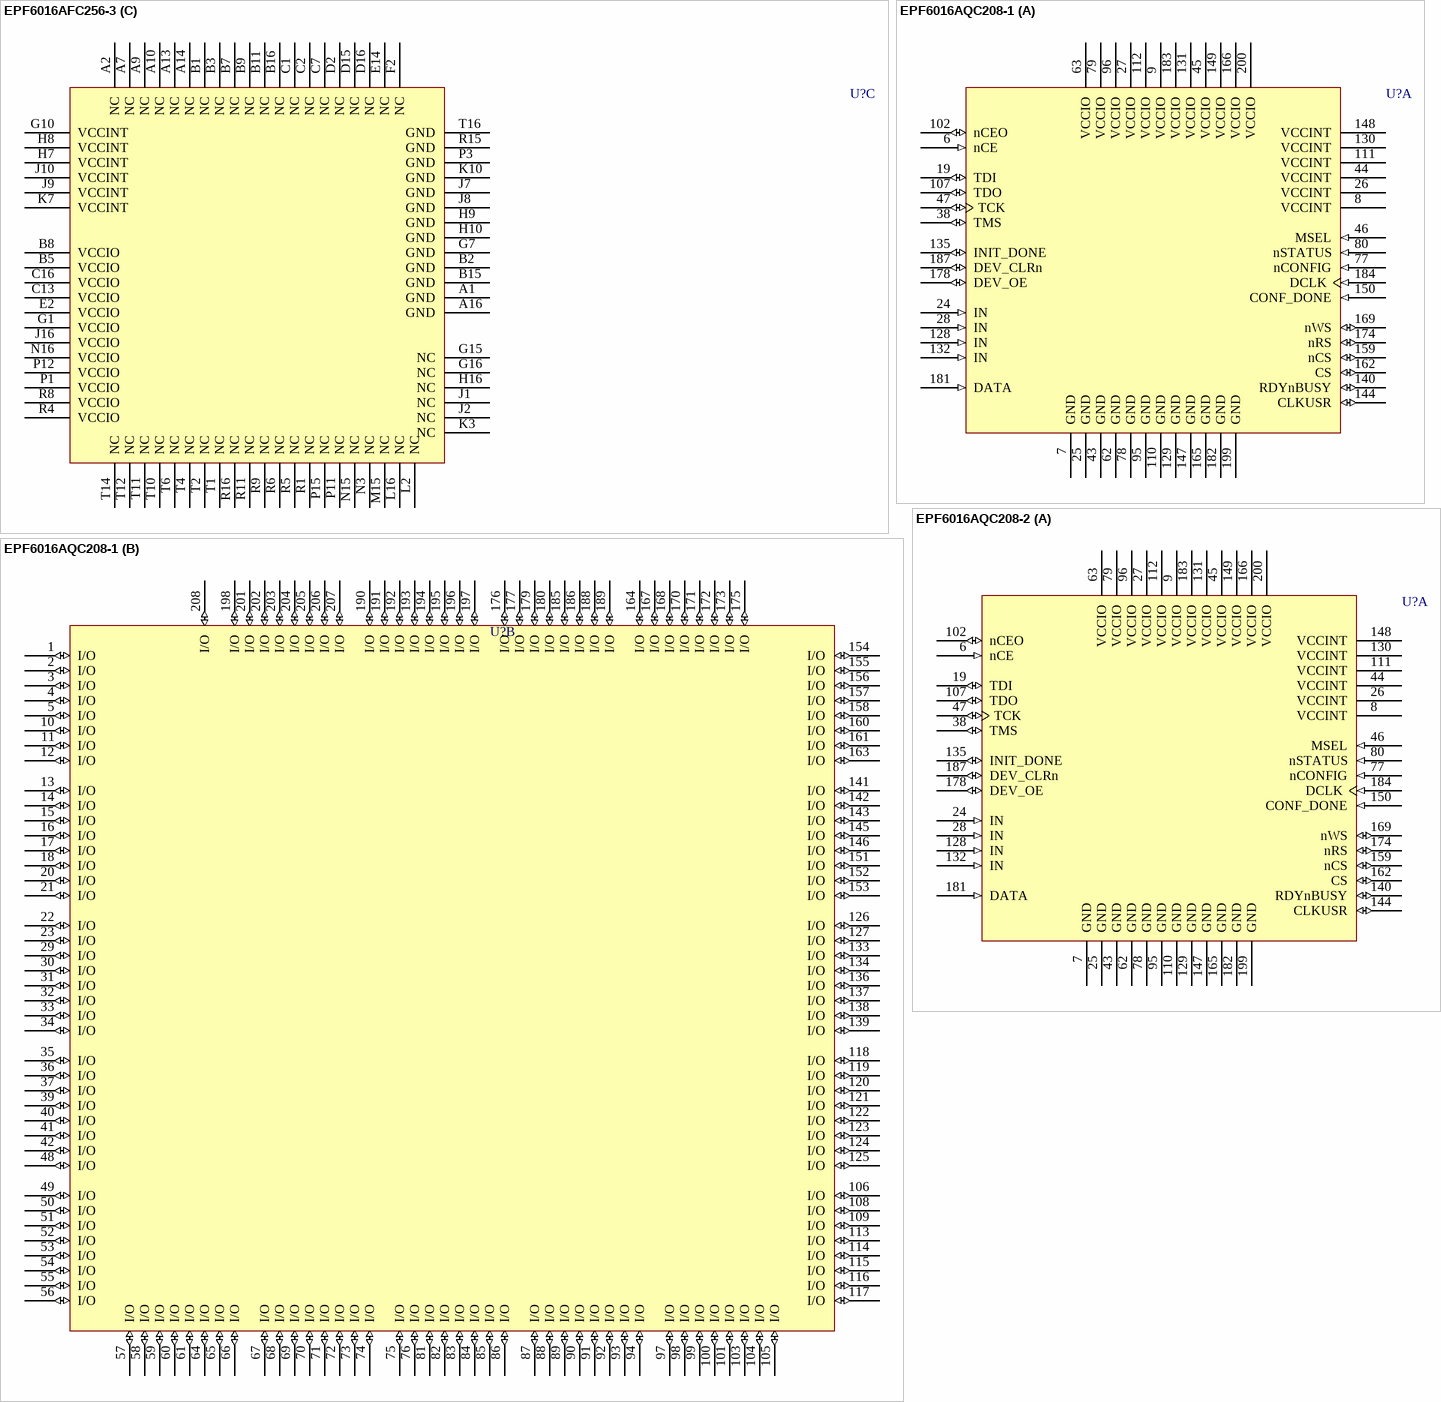
[diagram p7: symbols EPF6016AFC256-3 to EPF6016AQC208-2]

## EPF6016AFC256-3
designator U?
FLEX EPF6016A 3.3V PLD, 171 User IO Pins, 256-Pin BGA, Speed Grade 3, Commercial Grade; Published: 17-Jul-2002; LatestRevisionDate: 13-Apr-2006; LatestRevisionNote: IPC-7351 Footprint Added.; DatasheetVersion: ver4.1, Mar-2001; PackageVersion: ver14.1, Oct-2005; PackageReference: FBGA256; Publisher: Altium Limited; PackageDescription: 256-Ball FineLine Ball Grid Array (FBGA256) - Option 1; Code_JEDEC: MS-034-AAF-1; Code_IPC: BGA100P16X16-256; ComponentLink1Description: Manufacturer Link; ComponentLink1URL: http://www.altera.com/products/devices/flex6k/f6k-index.html; ComponentLink2Description: Datasheet; ComponentLink2URL: http://www.altera.com/literature/ds/dsf6k.pdf
footprint FBGA256 (BGA, 256-Leads, Body 17x17mm, Pitch 1mm)
3D model EPF6016A-FBGA256 (256-Ball FineLine Ball Grid Array (FBGA256) - Option 1)
part A pins: A3 I/O (io), A4 I/O (io), A5 I/O (io), A6 I/O (io), A8 I/O (io), A11 I/O (io), A12 I/O (io), A15 I/O (io), B4 I/O (io), B6 I/O (io), B10 I/O (io), B12 I/O (io), B13 I/O (io), B14 I/O (io), C3 I/O (io), C4 I/O (io), C5 I/O (io), C6 I/O (io), C8 I/O (io), C9 I/O (io), C10 I/O (io), C11 I/O (io), C12 I/O (io), C14 I/O (io), C15 I/O (io), D1 I/O (io), D3 I/O (io), D4 I/O (io), D5 I/O (io), D6 I/O (io), D7 I/O (io), D8 I/O (io), D11 I/O (io), D13 I/O (io), D14 I/O (io), E1 I/O (io), E3 I/O (io), E4 I/O (io), E5 I/O (io), E6 I/O (io), E7 I/O (io), E10 I/O (io), E11 I/O (io), E12 I/O (io), E13 I/O (io), E15 I/O (io), E16 I/O (io), F1 I/O (io), F3 I/O (io), F4 I/O (io), F6 I/O (io), F7 I/O (io), F8 I/O (io), F9 I/O (io), F14 I/O (io), F15 I/O (io), F16 I/O (io), G2 I/O (io), G3 I/O (io), G4 I/O (io), G6 I/O (io), G8 I/O (io), G11 I/O (io), G12 I/O (io), G14 I/O (io), H1 I/O (io), H2 I/O (io), H3 I/O (io), H6 I/O (io), H11 I/O (io), H12 I/O (io), H14 I/O (io), H15 I/O (io), J3 I/O (io), J4 I/O (io), J5 I/O (io), J6 I/O (io), J11 I/O (io), J14 I/O (io), J15 I/O (io), K1 I/O (io), K2 I/O (io), K4 I/O (io), K9 I/O (io), K11 I/O (io), K12 I/O (io), K13 I/O (io), K14 I/O (io), K15 I/O (io), K16 I/O (io), L1 I/O (io), L3 I/O (io), L4 I/O (io), L6 I/O (io), L7 I/O (io), L8 I/O (io), L9 I/O (io), L10 I/O (io), L11 I/O (io), L12 I/O (io), L13 I/O (io), L14 I/O (io), L15 I/O (io), M1 I/O (io), M2 I/O (io), M3 I/O (io), M4 I/O (io), M5 I/O (io), M6 I/O (io), M7 I/O (io), M8 I/O (io), M9 I/O (io), M10 I/O (io), M11 I/O (io), M12 I/O (io), M13 I/O (io), M14 I/O (io), M16 I/O (io), N1 I/O (io), N2 I/O (io), N4 I/O (io), N5 I/O (io), N6 I/O (io), N7 I/O (io), N9 I/O (io), N10 I/O (io), N11 I/O (io), N14 I/O (io), P2 I/O (io), P4 I/O (io), P5 I/O (io), P6 I/O (io), P7 I/O (io), P8 I/O (io), P9 I/O (io), P10 I/O (io), P13 I/O (io), P14 I/O (io), P16 I/O (io), R2 I/O (io), R3 I/O (io), R7 I/O (io), R10 I/O (io), R12 I/O (io), R13 I/O (io), R14 I/O (io), T3 I/O (io), T5 I/O (io), T7 I/O (io), T8 I/O (io), T9 I/O (io), T13 I/O (io), T15 I/O (io)
part B pins: D9 DATA (in), D10 nRS (io), D12 nCS (io), E8 DEV_CLRn (io), E9 DEV_OE (io), F5 nCE (in), F10 nWS (io), F11 CS (io), F12 CONF_DONE (in), F13 CLKUSR (in), G5 TDI (io), G9 DCLK (in), G13 RDYnBUSY (io), H4 IN (in), H5 IN (in), H13 INIT_DONE (io), J12 IN (in), J13 IN (in), K5 TMS (in), K6 TCK (in), K8 nSTATUS (in), L5 MSEL (in), N8 nCONFIG (in), N12 nCEO (io), N13 TDO (io)
part C pins: A1 GND (power), A2 NC, A7 NC, A9 NC, A10 NC, A13 NC, A14 NC, A16 GND (power), B1 NC, B2 GND (power), B3 NC, B5 VCCIO (power), B7 NC, B8 VCCIO (power), B9 NC, B11 NC, B15 GND (power), B16 NC, C1 NC, C2 NC, C7 NC, C13 VCCIO (power), C16 VCCIO (power), D2 NC, D15 NC, D16 NC, E2 VCCIO (power), E14 NC, F2 NC, G1 VCCIO (power), G7 GND (power), G10 VCCINT (power), G15 NC, G16 NC, H7 VCCINT (power), H8 VCCINT (power), H9 GND (power), H10 GND (power), H16 NC, J1 NC, J2 NC, J7 GND (power), J8 GND (power), J9 VCCINT (power), J10 VCCINT (power), J16 VCCIO (power), K3 NC, K7 VCCINT (power), K10 GND (power), L2 NC, L16 NC, M15 NC, N3 NC, N15 NC, N16 VCCIO (power), P1 VCCIO (power), P3 GND (power), P11 NC, P12 VCCIO (power), P15 NC, R1 NC, R4 VCCIO (power), R5 NC, R6 NC, R8 VCCIO (power), R9 NC, R11 NC, R15 GND (power), R16 NC, T1 NC, T2 NC, T4 NC, T6 NC, T10 NC, T11 NC, T12 NC, T14 NC, T16 GND (power)

## EPF6016AQC208-1
designator U?
FLEX EPF6016A 3.3V PLD, 171 User IO Pins, 208-Pin PQFP, Speed Grade 1, Commercial Grade; Published: 24-Nov-2000; LatestRevisionDate: 13-Apr-2006; LatestRevisionNote: IPC-7351 Footprint Added.; DatasheetVersion: ver4.1, Mar-2001; PackageVersion: ver14.1, Oct-2005; PackageReference: PQFP208; Publisher: Altium Limited; PackageDescription: 208-Pin Plastic Quad Flat Pack (PQFP208); Code_JEDEC: MS-029-FA-1; ComponentLink1Description: Manufacturer Link; ComponentLink1URL: http://www.altera.com/products/devices/flex6k/f6k-index.html; ComponentLink2Description: Datasheet; ComponentLink2URL: http://www.altera.com/literature/ds/dsf6k.pdf
footprint PQFP208_N (Shrink QFP, 208-Leads, Body 28x28mm, Pitch 0.5mm, IPC Medium Density)
footprint PQFP208_L (Shrink QFP, 208-Leads, Body 28x28mm, Pitch 0.5mm, IPC High Density)
footprint PQFP208_M (Shrink QFP, 208-Leads, Body 28x28mm, Pitch 0.5mm, IPC Low Density)
3D model EPF6016A-PQFP208 (208-Pin Plastic Quad Flat Pack (PQFP208))
part A pins: 6 nCE (in), 7 GND (power), 8 VCCINT (power), 9 VCCIO (power), 19 TDI (io), 24 IN (in), 25 GND (power), 26 VCCINT (power), 27 VCCIO (power), 28 IN (in), 38 TMS (io), 43 GND (power), 44 VCCINT (power), 45 VCCIO (power), 46 MSEL (in), 47 TCK (io), 62 GND (power), 63 VCCIO (power), 77 nCONFIG (in), 78 GND (power), 79 VCCIO (power), 80 nSTATUS (in), 95 GND (power), 96 VCCIO (power), 102 nCEO (io), 107 TDO (io), 110 GND (power), 111 VCCINT (power), 112 VCCIO (power), 128 IN (in), 129 GND (power), 130 VCCINT (power), 131 VCCIO (power), 132 IN (in), 135 INIT_DONE (io), 140 RDYnBUSY (io), 144 CLKUSR (io), 147 GND (power), 148 VCCINT (power), 149 VCCIO (power), 150 CONF_DONE (in), 159 nCS (io), 162 CS (io), 165 GND (power), 166 VCCIO (power), 169 nWS (io), 174 nRS (io), 178 DEV_OE (io), 181 DATA (in), 182 GND (power), 183 VCCIO (power), 184 DCLK (in), 187 DEV_CLRn (io), 199 GND (power), 200 VCCIO (power)
part B pins: 1 I/O (io), 2 I/O (io), 3 I/O (io), 4 I/O (io), 5 I/O (io), 10 I/O (io), 11 I/O (io), 12 I/O (io), 13 I/O (io), 14 I/O (io), 15 I/O (io), 16 I/O (io), 17 I/O (io), 18 I/O (io), 20 I/O (io), 21 I/O (io), 22 I/O (io), 23 I/O (io), 29 I/O (io), 30 I/O (io), 31 I/O (io), 32 I/O (io), 33 I/O (io), 34 I/O (io), 35 I/O (io), 36 I/O (io), 37 I/O (io), 39 I/O (io), 40 I/O (io), 41 I/O (io), 42 I/O (io), 48 I/O (io), 49 I/O (io), 50 I/O (io), 51 I/O (io), 52 I/O (io), 53 I/O (io), 54 I/O (io), 55 I/O (io), 56 I/O (io), 57 I/O (io), 58 I/O (io), 59 I/O (io), 60 I/O (io), 61 I/O (io), 64 I/O (io), 65 I/O (io), 66 I/O (io), 67 I/O (io), 68 I/O (io), 69 I/O (io), 70 I/O (io), 71 I/O (io), 72 I/O (io), 73 I/O (io), 74 I/O (io), 75 I/O (io), 76 I/O (io), 81 I/O (io), 82 I/O (io), 83 I/O (io), 84 I/O (io), 85 I/O (io), 86 I/O (io), 87 I/O (io), 88 I/O (io), 89 I/O (io), 90 I/O (io), 91 I/O (io), 92 I/O (io), 93 I/O (io), 94 I/O (io), 97 I/O (io), 98 I/O (io), 99 I/O (io), 100 I/O (io), 101 I/O (io), 103 I/O (io), 104 I/O (io), 105 I/O (io), 106 I/O (io), 108 I/O (io), 109 I/O (io), 113 I/O (io), 114 I/O (io), 115 I/O (io), 116 I/O (io), 117 I/O (io), 118 I/O (io), 119 I/O (io), 120 I/O (io), 121 I/O (io), 122 I/O (io), 123 I/O (io), 124 I/O (io), 125 I/O (io), 126 I/O (io), 127 I/O (io), 133 I/O (io), 134 I/O (io), 136 I/O (io), 137 I/O (io), 138 I/O (io), 139 I/O (io), 141 I/O (io), 142 I/O (io), 143 I/O (io), 145 I/O (io), 146 I/O (io), 151 I/O (io), 152 I/O (io), 153 I/O (io), 154 I/O (io), 155 I/O (io), 156 I/O (io), 157 I/O (io), 158 I/O (io), 160 I/O (io), 161 I/O (io), 163 I/O (io), 164 I/O (io), 167 I/O (io), 168 I/O (io), 170 I/O (io), 171 I/O (io), 172 I/O (io), 173 I/O (io), 175 I/O (io), 176 I/O (io), 177 I/O (io), 179 I/O (io), 180 I/O (io), 185 I/O (io), 186 I/O (io), 188 I/O (io), 189 I/O (io), 190 I/O (io), 191 I/O (io), 192 I/O (io), 193 I/O (io), 194 I/O (io), 195 I/O (io), 196 I/O (io), 197 I/O (io), 198 I/O (io), 201 I/O (io), 202 I/O (io), 203 I/O (io), 204 I/O (io), 205 I/O (io), 206 I/O (io), 207 I/O (io), 208 I/O (io)

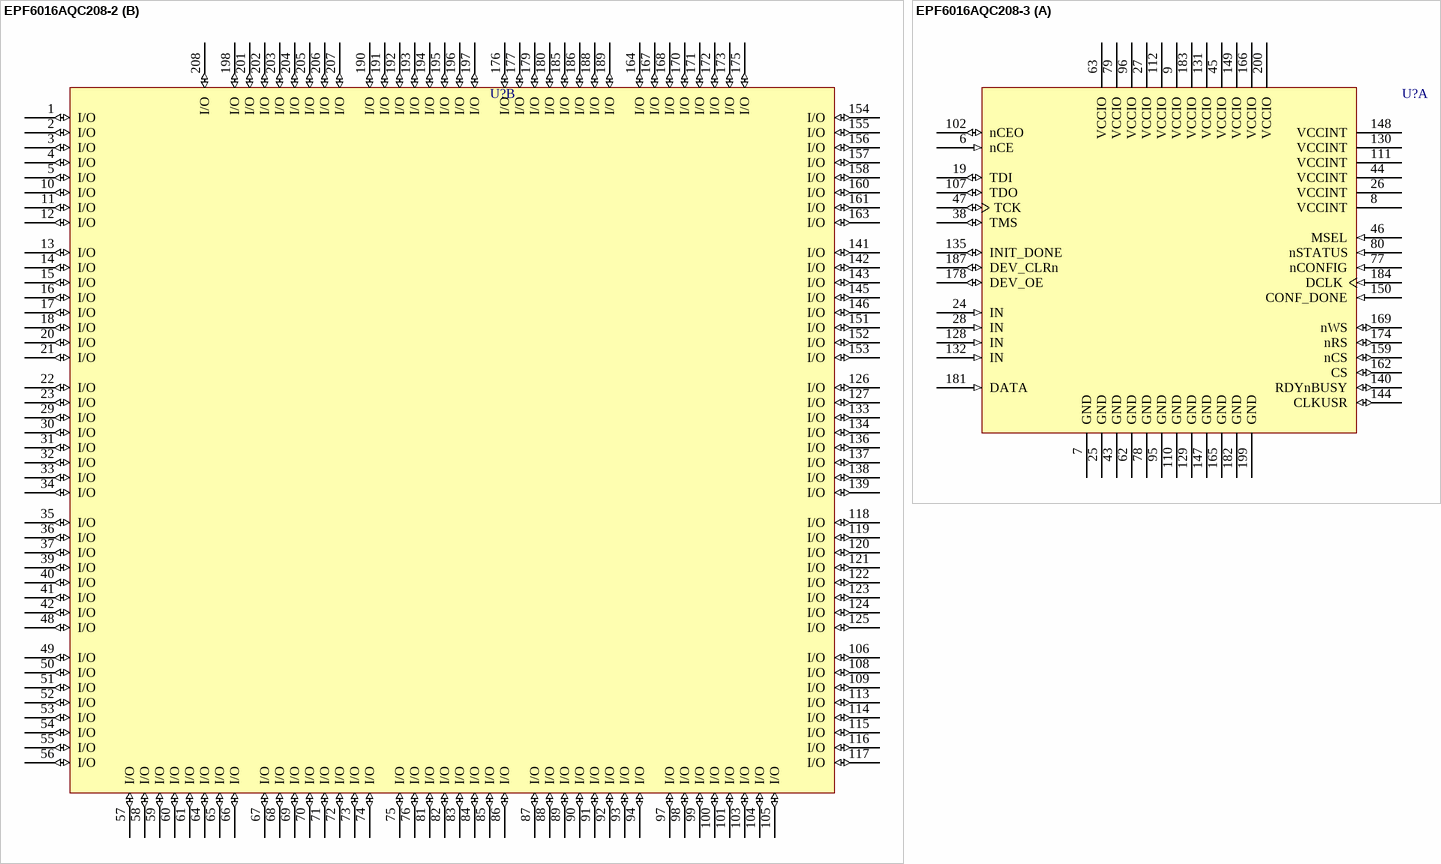
[diagram p8: symbols EPF6016AQC208-2 to EPF6016AQC208-3]

## EPF6016AQC208-2
designator U?
FLEX EPF6016A 3.3V PLD, 171 User IO Pins, 208-Pin PQFP, Speed Grade 2, Commercial Grade; Published: 24-Nov-2000; LatestRevisionDate: 13-Apr-2006; LatestRevisionNote: IPC-7351 Footprint Added.; DatasheetVersion: ver4.1, Mar-2001; PackageVersion: ver14.1, Oct-2005; PackageReference: PQFP208; Publisher: Altium Limited; PackageDescription: 208-Pin Plastic Quad Flat Pack (PQFP208); Code_JEDEC: MS-029-FA-1; ComponentLink1Description: Manufacturer Link; ComponentLink1URL: http://www.altera.com/products/devices/flex6k/f6k-index.html; ComponentLink2Description: Datasheet; ComponentLink2URL: http://www.altera.com/literature/ds/dsf6k.pdf
footprint PQFP208_N (Shrink QFP, 208-Leads, Body 28x28mm, Pitch 0.5mm, IPC Medium Density)
footprint PQFP208_L (Shrink QFP, 208-Leads, Body 28x28mm, Pitch 0.5mm, IPC High Density)
footprint PQFP208_M (Shrink QFP, 208-Leads, Body 28x28mm, Pitch 0.5mm, IPC Low Density)
3D model EPF6016A-PQFP208 (208-Pin Plastic Quad Flat Pack (PQFP208))
part A pins: 6 nCE (in), 7 GND (power), 8 VCCINT (power), 9 VCCIO (power), 19 TDI (io), 24 IN (in), 25 GND (power), 26 VCCINT (power), 27 VCCIO (power), 28 IN (in), 38 TMS (io), 43 GND (power), 44 VCCINT (power), 45 VCCIO (power), 46 MSEL (in), 47 TCK (io), 62 GND (power), 63 VCCIO (power), 77 nCONFIG (in), 78 GND (power), 79 VCCIO (power), 80 nSTATUS (in), 95 GND (power), 96 VCCIO (power), 102 nCEO (io), 107 TDO (io), 110 GND (power), 111 VCCINT (power), 112 VCCIO (power), 128 IN (in), 129 GND (power), 130 VCCINT (power), 131 VCCIO (power), 132 IN (in), 135 INIT_DONE (io), 140 RDYnBUSY (io), 144 CLKUSR (io), 147 GND (power), 148 VCCINT (power), 149 VCCIO (power), 150 CONF_DONE (in), 159 nCS (io), 162 CS (io), 165 GND (power), 166 VCCIO (power), 169 nWS (io), 174 nRS (io), 178 DEV_OE (io), 181 DATA (in), 182 GND (power), 183 VCCIO (power), 184 DCLK (in), 187 DEV_CLRn (io), 199 GND (power), 200 VCCIO (power)
part B pins: 1 I/O (io), 2 I/O (io), 3 I/O (io), 4 I/O (io), 5 I/O (io), 10 I/O (io), 11 I/O (io), 12 I/O (io), 13 I/O (io), 14 I/O (io), 15 I/O (io), 16 I/O (io), 17 I/O (io), 18 I/O (io), 20 I/O (io), 21 I/O (io), 22 I/O (io), 23 I/O (io), 29 I/O (io), 30 I/O (io), 31 I/O (io), 32 I/O (io), 33 I/O (io), 34 I/O (io), 35 I/O (io), 36 I/O (io), 37 I/O (io), 39 I/O (io), 40 I/O (io), 41 I/O (io), 42 I/O (io), 48 I/O (io), 49 I/O (io), 50 I/O (io), 51 I/O (io), 52 I/O (io), 53 I/O (io), 54 I/O (io), 55 I/O (io), 56 I/O (io), 57 I/O (io), 58 I/O (io), 59 I/O (io), 60 I/O (io), 61 I/O (io), 64 I/O (io), 65 I/O (io), 66 I/O (io), 67 I/O (io), 68 I/O (io), 69 I/O (io), 70 I/O (io), 71 I/O (io), 72 I/O (io), 73 I/O (io), 74 I/O (io), 75 I/O (io), 76 I/O (io), 81 I/O (io), 82 I/O (io), 83 I/O (io), 84 I/O (io), 85 I/O (io), 86 I/O (io), 87 I/O (io), 88 I/O (io), 89 I/O (io), 90 I/O (io), 91 I/O (io), 92 I/O (io), 93 I/O (io), 94 I/O (io), 97 I/O (io), 98 I/O (io), 99 I/O (io), 100 I/O (io), 101 I/O (io), 103 I/O (io), 104 I/O (io), 105 I/O (io), 106 I/O (io), 108 I/O (io), 109 I/O (io), 113 I/O (io), 114 I/O (io), 115 I/O (io), 116 I/O (io), 117 I/O (io), 118 I/O (io), 119 I/O (io), 120 I/O (io), 121 I/O (io), 122 I/O (io), 123 I/O (io), 124 I/O (io), 125 I/O (io), 126 I/O (io), 127 I/O (io), 133 I/O (io), 134 I/O (io), 136 I/O (io), 137 I/O (io), 138 I/O (io), 139 I/O (io), 141 I/O (io), 142 I/O (io), 143 I/O (io), 145 I/O (io), 146 I/O (io), 151 I/O (io), 152 I/O (io), 153 I/O (io), 154 I/O (io), 155 I/O (io), 156 I/O (io), 157 I/O (io), 158 I/O (io), 160 I/O (io), 161 I/O (io), 163 I/O (io), 164 I/O (io), 167 I/O (io), 168 I/O (io), 170 I/O (io), 171 I/O (io), 172 I/O (io), 173 I/O (io), 175 I/O (io), 176 I/O (io), 177 I/O (io), 179 I/O (io), 180 I/O (io), 185 I/O (io), 186 I/O (io), 188 I/O (io), 189 I/O (io), 190 I/O (io), 191 I/O (io), 192 I/O (io), 193 I/O (io), 194 I/O (io), 195 I/O (io), 196 I/O (io), 197 I/O (io), 198 I/O (io), 201 I/O (io), 202 I/O (io), 203 I/O (io), 204 I/O (io), 205 I/O (io), 206 I/O (io), 207 I/O (io), 208 I/O (io)

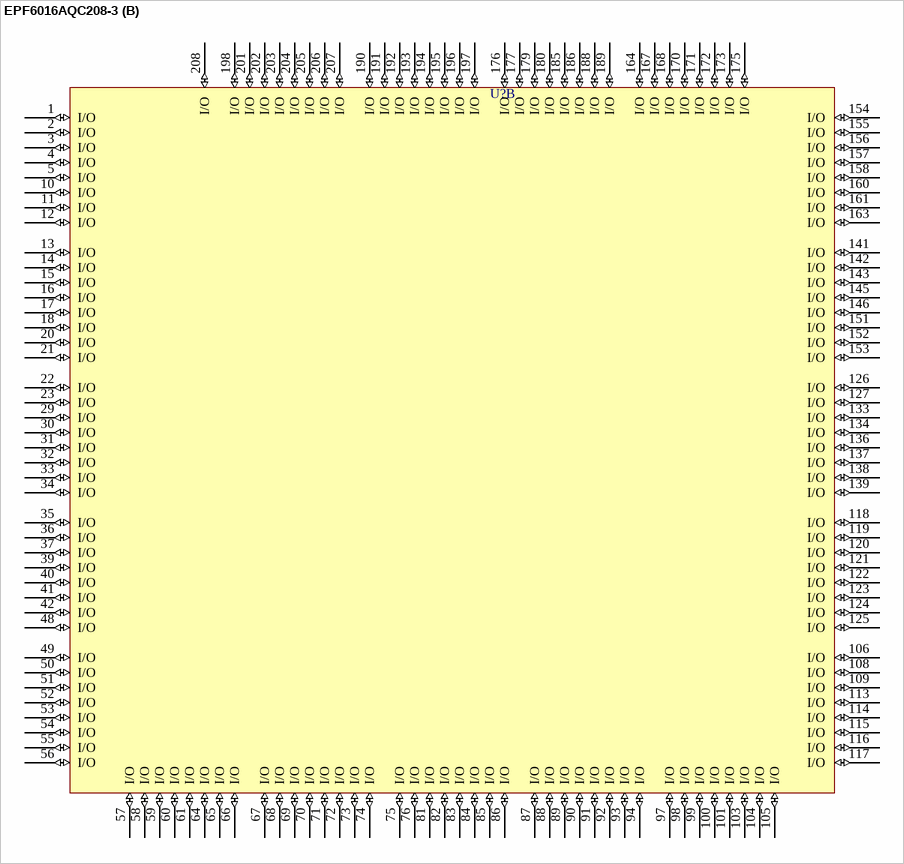
[diagram p9: symbol EPF6016AQC208-3]